# Altium integrated library CDE_Library.IntLib: 6171 symbols (part 23 of 25)
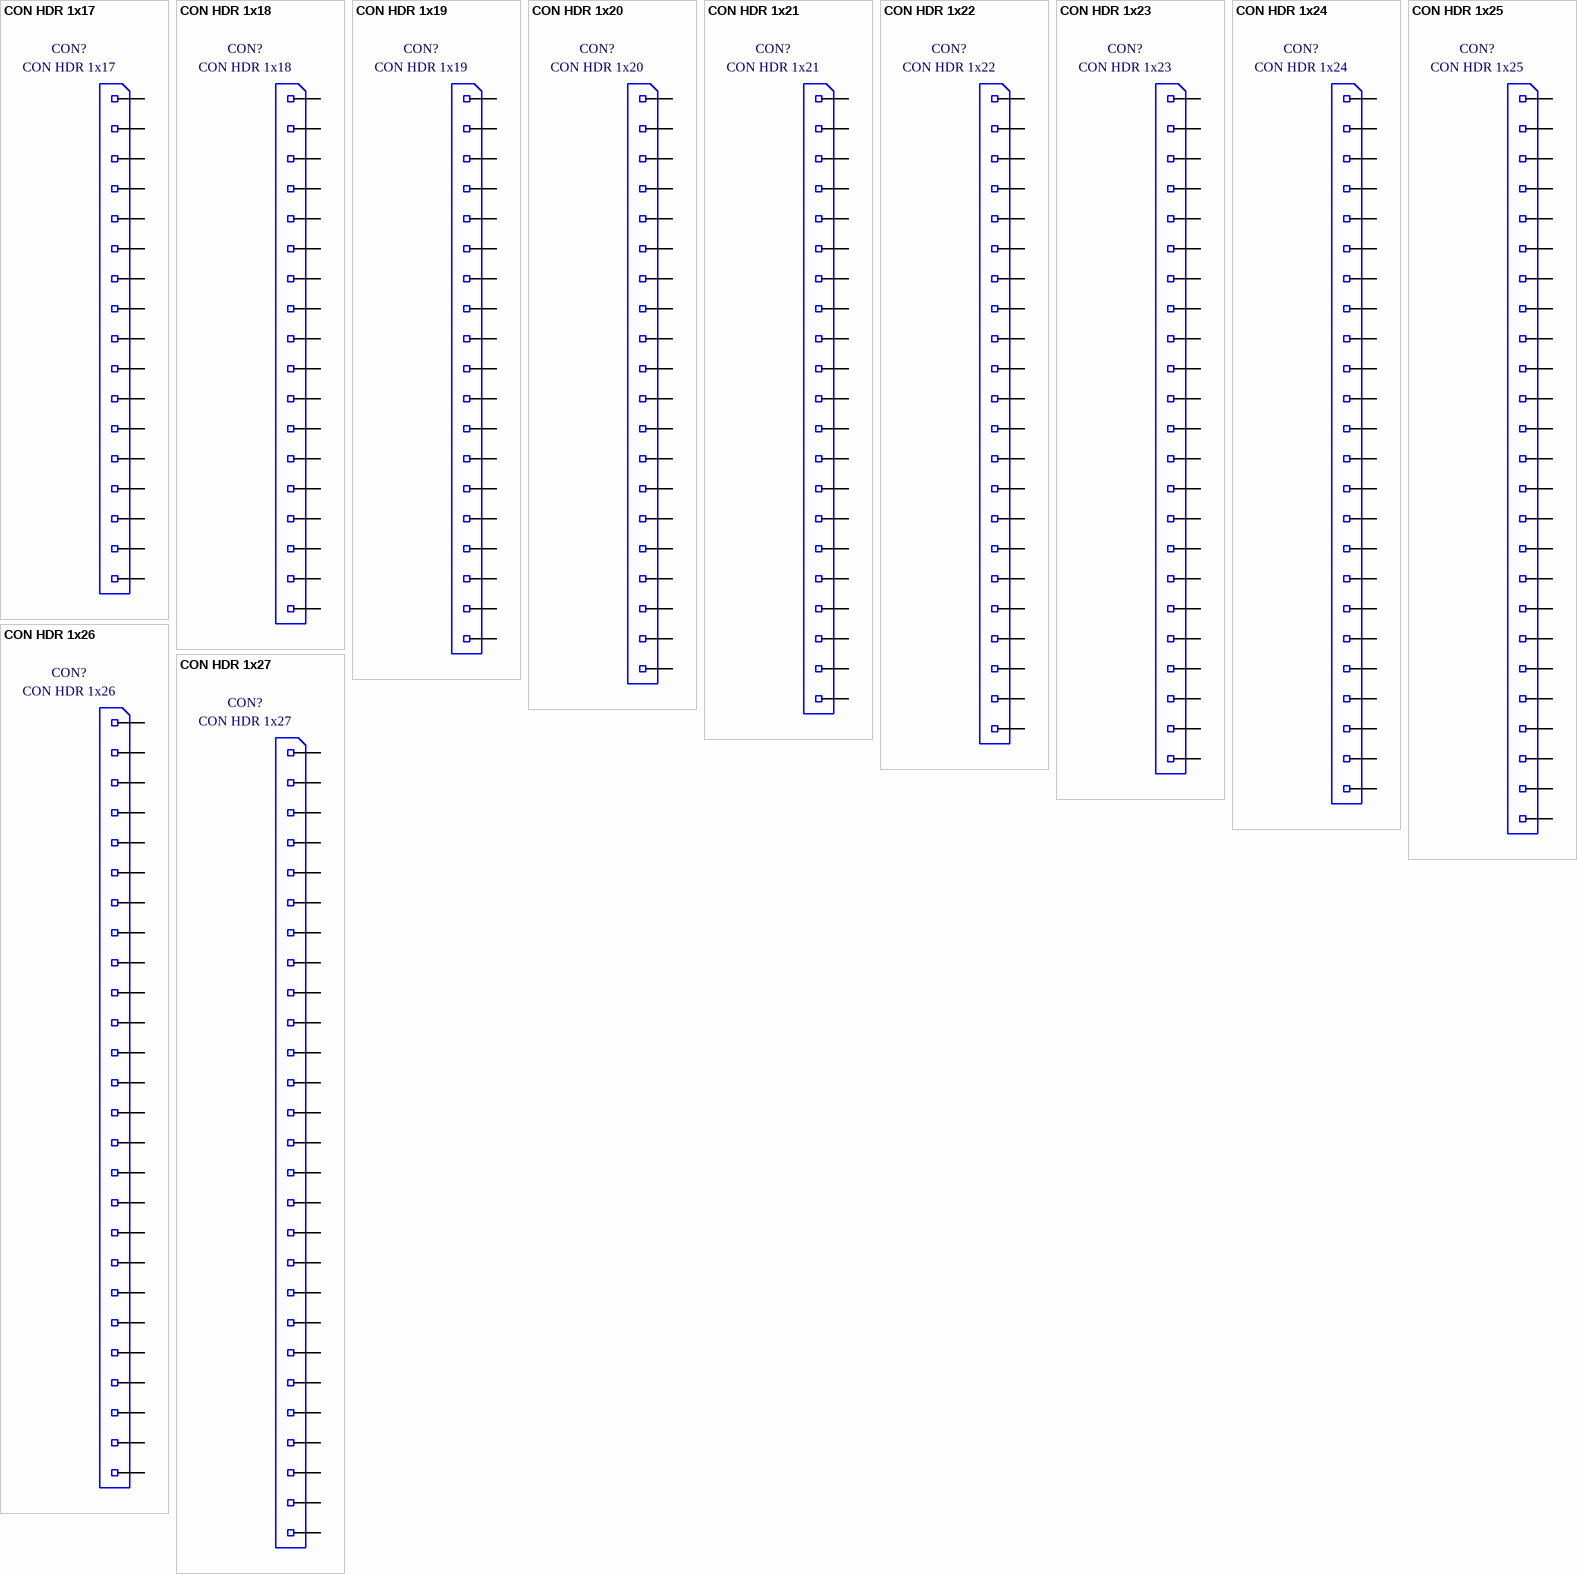
[diagram p279: symbols CON HDR 1x17 to CON HDR 1x27]

## CON HDR 1x23
designator CON?
pcb header recht 1x23  pitch 100mil; Part Number: CON HDR 1x23; Component Kind: Standard; Component Type: Standard; Designator: CON HDR 1x23; Footprint: hdr 1x23; Library Reference: CON HDR 1x23; Pin Count: 23
footprint hdr 1x23
pins: 1, 2, 3, 4, 5, 6, 7, 8, 9, 10, 11, 12, 13, 14, 15, 16, 17, 18, 19, 20, 21, 22, 23

## CON HDR 1x24
designator CON?
pcb header recht 1x24  pitch 100mil; Part Number: CON HDR 1x24; Component Kind: Standard; Component Type: Standard; Designator: CON HDR 1x24; Footprint: hdr 1x24; Library Reference: CON HDR 1x24; Pin Count: 24
footprint hdr 1x24
pins: 1, 2, 3, 4, 5, 6, 7, 8, 9, 10, 11, 12, 13, 14, 15, 16, 17, 18, 19, 20, 21, 22, 23, 24

## CON HDR 1x25
designator CON?
pcb header recht 1x25  pitch 100mil; Part Number: CON HDR 1x25; Component Kind: Standard; Component Type: Standard; Designator: CON HDR 1x25; Footprint: hdr 1x25; Library Reference: CON HDR 1x25; Pin Count: 25
footprint hdr 1x25
pins: 1, 2, 3, 4, 5, 6, 7, 8, 9, 10, 11, 12, 13, 14, 15, 16, 17, 18, 19, 20, 21, 22, 23, 24, 25

## CON HDR 1x26
designator CON?
pcb header recht 1x26  pitch 100mil; Part Number: CON HDR 1x26; Component Kind: Standard; Component Type: Standard; Designator: CON HDR 1x26; Footprint: hdr 1x26; Library Reference: CON HDR 1x26; Pin Count: 26
footprint hdr 1x26
pins: 1, 2, 3, 4, 5, 6, 7, 8, 9, 10, 11, 12, 13, 14, 15, 16, 17, 18, 19, 20, 21, 22, 23, 24, 25, 26

## CON HDR 1x27
designator CON?
pcb header recht 1x27  pitch 100mil; Part Number: CON HDR 1x27; Component Kind: Standard; Component Type: Standard; Designator: CON HDR 1x27; Footprint: hdr 1x27; Library Reference: CON HDR 1x27; Pin Count: 27
footprint hdr 1x27
pins: 1, 2, 3, 4, 5, 6, 7, 8, 9, 10, 11, 12, 13, 14, 15, 16, 17, 18, 19, 20, 21, 22, 23, 24, 25, 26, 27

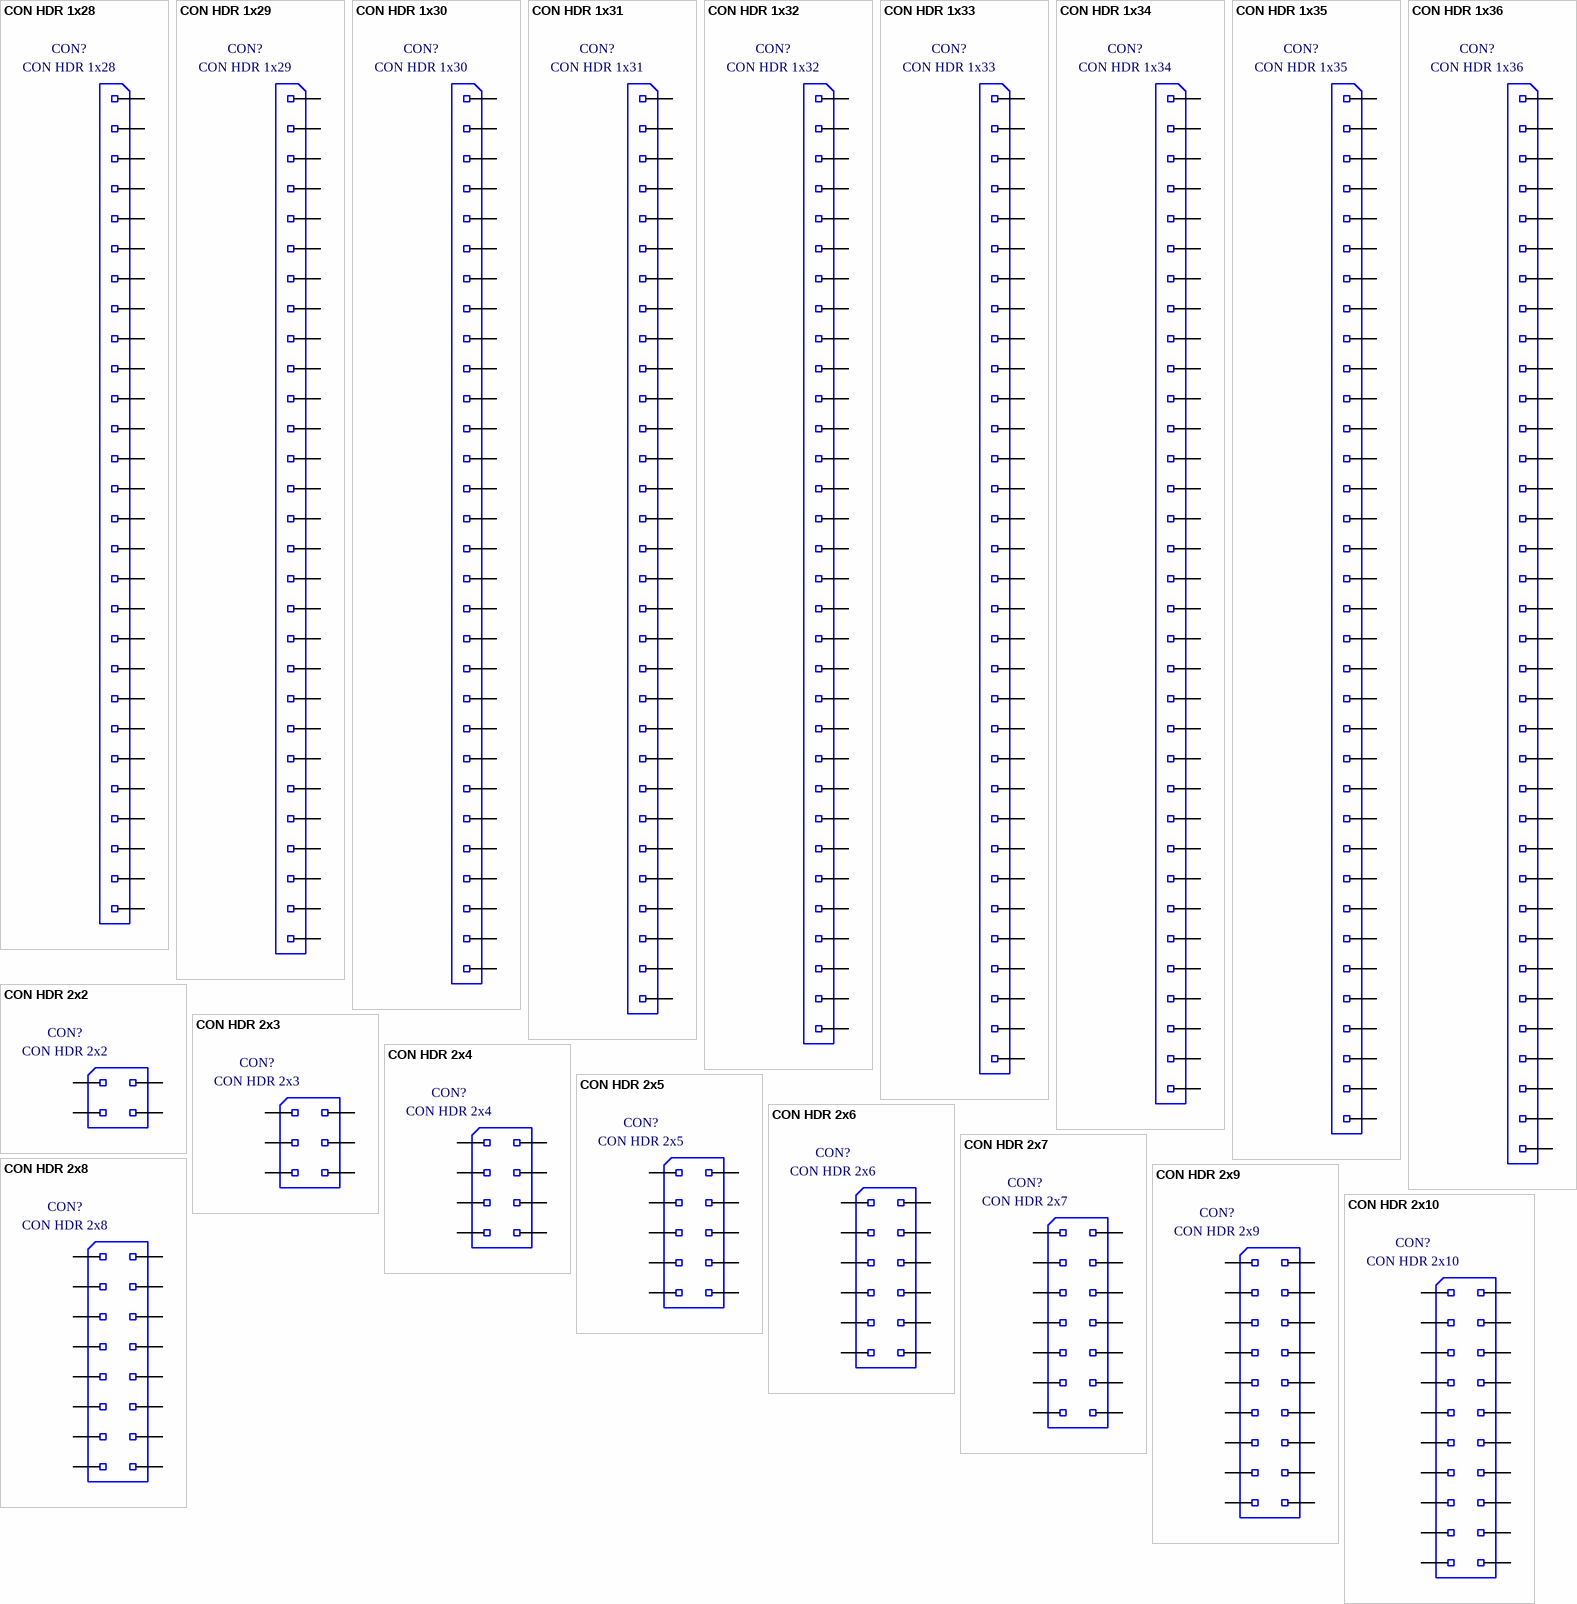
[diagram p240: symbols CON HDR 1x28 to CON HDR 2x10]

## CON HDR 1x28
designator CON?
pcb header recht 1x28  pitch 100mil; Part Number: CON HDR 1x28; Component Kind: Standard; Component Type: Standard; Designator: CON HDR 1x28; Footprint: hdr 1x28; Library Reference: CON HDR 1x28; Pin Count: 28
footprint hdr 1x28
pins: 1, 2, 3, 4, 5, 6, 7, 8, 9, 10, 11, 12, 13, 14, 15, 16, 17, 18, 19, 20, 21, 22, 23, 24, 25, 26, 27, 28

## CON HDR 1x29
designator CON?
pcb header recht 1x29  pitch 100mil; Part Number: CON HDR 1x29; Component Kind: Standard; Component Type: Standard; Designator: CON HDR 1x29; Footprint: hdr 1x29; Library Reference: CON HDR 1x29; Pin Count: 29
footprint hdr 1x29
pins: 1, 2, 3, 4, 5, 6, 7, 8, 9, 10, 11, 12, 13, 14, 15, 16, 17, 18, 19, 20, 21, 22, 23, 24, 25, 26, 27, 28, 29

## CON HDR 1x30
designator CON?
pcb header recht 1x30  pitch 100mil; Part Number: CON HDR 1x30; Component Kind: Standard; Component Type: Standard; Designator: CON HDR 1x30; Footprint: hdr 1x30; Library Reference: CON HDR 1x30; Pin Count: 30
footprint hdr 1x30
pins: 1, 2, 3, 4, 5, 6, 7, 8, 9, 10, 11, 12, 13, 14, 15, 16, 17, 18, 19, 20, 21, 22, 23, 24, 25, 26, 27, 28, 29, 30

## CON HDR 1x31
designator CON?
pcb header recht 1x31  pitch 100mil; Part Number: CON HDR 1x31; Component Kind: Standard; Component Type: Standard; Designator: CON HDR 1x31; Footprint: hdr 1x31; Library Reference: CON HDR 1x31; Pin Count: 31
footprint hdr 1x31
pins: 1, 2, 3, 4, 5, 6, 7, 8, 9, 10, 11, 12, 13, 14, 15, 16, 17, 18, 19, 20, 21, 22, 23, 24, 25, 26, 27, 28, 29, 30, 31

## CON HDR 1x32
designator CON?
pcb header recht 1x32  pitch 100mil; Part Number: CON HDR 1x32; Component Kind: Standard; Component Type: Standard; Designator: CON HDR 1x32; Footprint: hdr 1x32; Library Reference: CON HDR 1x32; Pin Count: 32
footprint hdr 1x32
pins: 1, 2, 3, 4, 5, 6, 7, 8, 9, 10, 11, 12, 13, 14, 15, 16, 17, 18, 19, 20, 21, 22, 23, 24, 25, 26, 27, 28, 29, 30, 31, 32

## CON HDR 1x33
designator CON?
pcb header recht 1x33  pitch 100mil; Part Number: CON HDR 1x33; Component Kind: Standard; Component Type: Standard; Designator: CON HDR 1x33; Footprint: hdr 1x33; Library Reference: CON HDR 1x33; Pin Count: 33
footprint hdr 1x33
pins: 1, 2, 3, 4, 5, 6, 7, 8, 9, 10, 11, 12, 13, 14, 15, 16, 17, 18, 19, 20, 21, 22, 23, 24, 25, 26, 27, 28, 29, 30, 31, 32, 33

## CON HDR 1x34
designator CON?
pcb header recht 1x34  pitch 100mil; Part Number: CON HDR 1x34; Component Kind: Standard; Component Type: Standard; Designator: CON HDR 1x34; Footprint: hdr 1x34; Library Reference: CON HDR 1x34; Pin Count: 34
footprint hdr 1x34
pins: 1, 2, 3, 4, 5, 6, 7, 8, 9, 10, 11, 12, 13, 14, 15, 16, 17, 18, 19, 20, 21, 22, 23, 24, 25, 26, 27, 28, 29, 30, 31, 32, 33, 34

## CON HDR 1x35
designator CON?
pcb header recht 1x35  pitch 100mil; Part Number: CON HDR 1x35; Component Kind: Standard; Component Type: Standard; Designator: CON HDR 1x35; Footprint: hdr 1x35; Library Reference: CON HDR 1x35; Pin Count: 35
footprint hdr 1x35
pins: 1, 2, 3, 4, 5, 6, 7, 8, 9, 10, 11, 12, 13, 14, 15, 16, 17, 18, 19, 20, 21, 22, 23, 24, 25, 26, 27, 28, 29, 30, 31, 32, 33, 34, 35

## CON HDR 1x36
designator CON?
pcb header recht 1x36 pitch 100mil; Part Number: CON HDR 1x36; Component Kind: Standard; Component Type: Standard; Designator: CON HDR 1x36; Footprint: hdr 1x36; Library Reference: CON HDR 1x36; Pin Count: 36
footprint hdr 1x36
pins: 1, 2, 3, 4, 5, 6, 7, 8, 9, 10, 11, 12, 13, 14, 15, 16, 17, 18, 19, 20, 21, 22, 23, 24, 25, 26, 27, 28, 29, 30, 31, 32, 33, 34, 35, 36

## CON HDR 2x2
designator CON?
pcb header recht 2x2  pitch 100mil; Part Number: CON HDR 2x2; Component Kind: Standard; Component Type: Standard; Designator: CON HDR 2x2; Footprint: hdr 2x2; Library Reference: CON HDR 2x2; Pin Count: 4
footprint hdr 2x2
pins: 1, 2, 3, 4

## CON HDR 2x3
designator CON?
pcb header recht 2x3  pitch 100mil; Part Number: CON HDR 2x3; Component Kind: Standard; Component Type: Standard; Designator: CON HDR 2x3; Footprint: hdr 2x3; Library Reference: CON HDR 2x3; Pin Count: 6
footprint hdr 2x3
pins: 1, 2, 3, 4, 5, 6

## CON HDR 2x4
designator CON?
pcb header recht 2x4  pitch 100mil; Part Number: CON HDR 2x4; Component Kind: Standard; Component Type: Standard; Designator: CON HDR 2x4; Footprint: hdr 2x4; Library Reference: CON HDR 2x4; Pin Count: 8
footprint hdr 2x4
pins: 1, 2, 3, 4, 5, 6, 7, 8

## CON HDR 2x5
designator CON?
pcb header recht 2x5  pitch 100mil; Part Number: CON HDR 2x5; Component Kind: Standard; Component Type: Standard; Designator: CON HDR 2x5; Footprint: hdr 2x5; Library Reference: CON HDR 2x5; Pin Count: 10
footprint hdr 2x5
pins: 1, 2, 3, 4, 5, 6, 7, 8, 9, 10

## CON HDR 2x6
designator CON?
pcb header recht 2x6  pitch 100mil; Part Number: CON HDR 2x6; Component Kind: Standard; Component Type: Standard; Designator: CON HDR 2x6; Footprint: hdr 2x6; Library Reference: CON HDR 2x6; Pin Count: 12
footprint hdr 2x6
pins: 1, 2, 3, 4, 5, 6, 7, 8, 9, 10, 11, 12

## CON HDR 2x7
designator CON?
pcb header recht 2x7  pitch 100mil; Part Number: CON HDR 2x7; Component Kind: Standard; Component Type: Standard; Designator: CON HDR 2x7; Footprint: hdr 2x7; Library Reference: CON HDR 2x7; Pin Count: 14
footprint hdr 2x7
pins: 1, 2, 3, 4, 5, 6, 7, 8, 9, 10, 11, 12, 13, 14

## CON HDR 2x8
designator CON?
pcb header recht 2x8  pitch 100mil; Part Number: CON HDR 2x8; Component Kind: Standard; Component Type: Standard; Designator: CON HDR 2x8; Footprint: hdr 2x8; Library Reference: CON HDR 2x8; Pin Count: 16
footprint hdr 2x8
pins: 1, 2, 3, 4, 5, 6, 7, 8, 9, 10, 11, 12, 13, 14, 15, 16

## CON HDR 2x9
designator CON?
pcb header recht 2x9  pitch 100mil; Part Number: CON HDR 2x9; Component Kind: Standard; Component Type: Standard; Designator: CON HDR 2x9; Footprint: hdr 2x9; Library Reference: CON HDR 2x9; Pin Count: 18
footprint hdr 2x9
pins: 1, 2, 3, 4, 5, 6, 7, 8, 9, 10, 11, 12, 13, 14, 15, 16, 17, 18

## CON HDR 2x10
designator CON?
pcb header recht 2x10  pitch 100mil; Part Number: CON HDR 2x10; Component Kind: Standard; Component Type: Standard; Designator: CON HDR 2x10; Footprint: hdr 2x10; Library Reference: CON HDR 2x10; Pin Count: 20
footprint hdr 2x10
pins: 1, 2, 3, 4, 5, 6, 7, 8, 9, 10, 11, 12, 13, 14, 15, 16, 17, 18, 19, 20

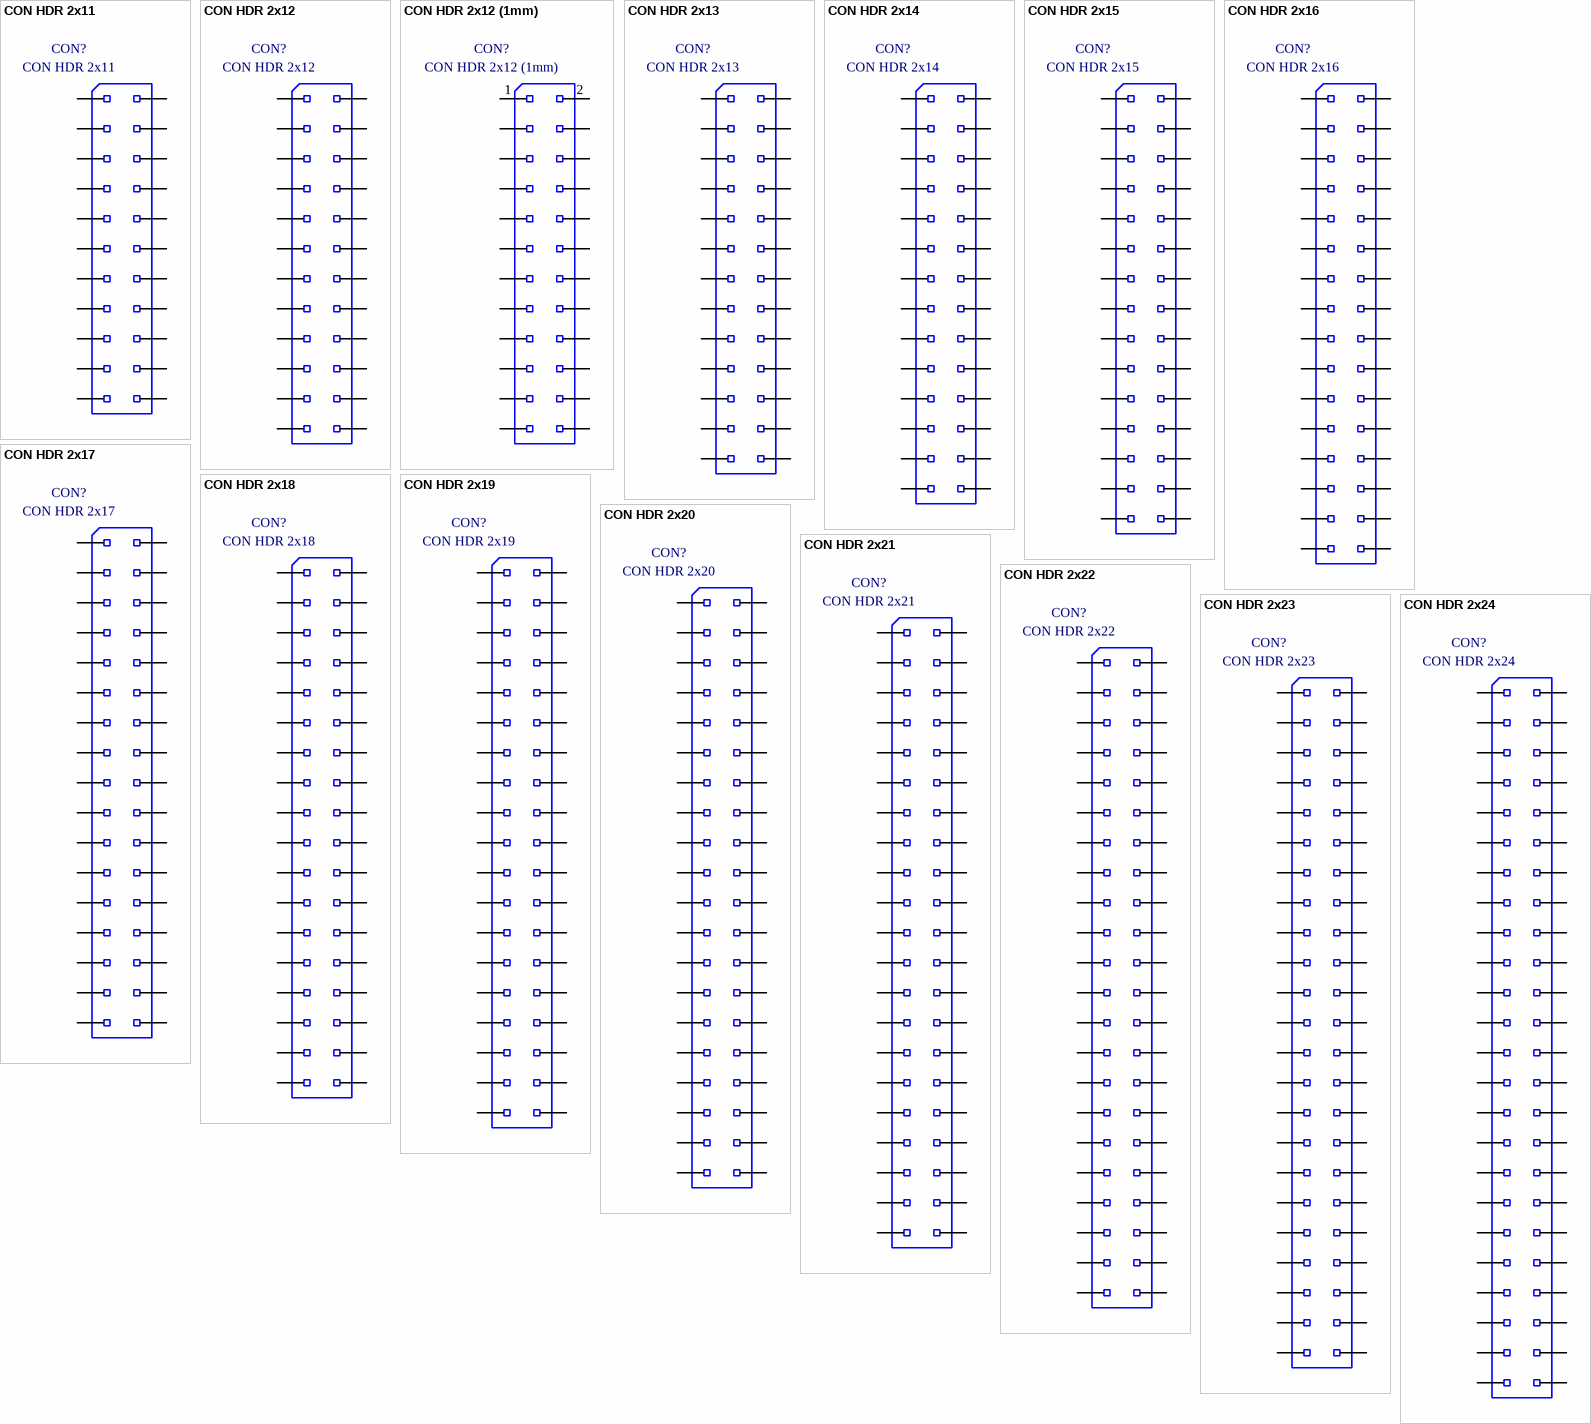
[diagram p241: symbols CON HDR 2x11 to CON HDR 2x24]

## CON HDR 2x11
designator CON?
pcb header recht 2x11  pitch 100mil; Part Number: CON HDR 2x11; Component Kind: Standard; Component Type: Standard; Designator: CON HDR 2x11; Footprint: hdr 2x11; Library Reference: CON HDR 2x11; Pin Count: 22
footprint hdr 2x11
pins: 1, 2, 3, 4, 5, 6, 7, 8, 9, 10, 11, 12, 13, 14, 15, 16, 17, 18, 19, 20, 21, 22

## CON HDR 2x12
designator CON?
pcb header recht 2x12  pitch 100mil; Part Number: CON HDR 2x12; Component Kind: Standard; Component Type: Standard; Designator: CON HDR 2x12; Footprint: hdr 2x12; Library Reference: CON HDR 2x12; Pin Count: 24
footprint hdr 2x12
pins: 1, 2, 3, 4, 5, 6, 7, 8, 9, 10, 11, 12, 13, 14, 15, 16, 17, 18, 19, 20, 21, 22, 23, 24

## CON HDR 2x12 (1mm)
designator CON?
Samtec CLM-112-02 1mm pitch header; Part Number: CON HDR 2x12 (1mm); Component Kind: Standard; Component Type: Standard; Designator: CON HDR 2x12 (1mm); Footprint: smd CON 2x12 (1mm); Library Reference: CON HDR 2x12 (1mm); Pin Count: 24
footprint smd CON 2x12 (1mm)
pins: 1, 2, 3, 4, 5, 6, 7, 8, 9, 10, 11, 12, 13, 14, 15, 16, 17, 18, 19, 20, 21, 22, 23, 24

## CON HDR 2x13
designator CON?
pcb header recht 2x13  pitch 100mil; Part Number: CON HDR 2x13; Component Kind: Standard; Component Type: Standard; Designator: CON HDR 2x13; Footprint: hdr 2x13; Library Reference: CON HDR 2x13; Pin Count: 26
footprint hdr 2x13
pins: 1, 2, 3, 4, 5, 6, 7, 8, 9, 10, 11, 12, 13, 14, 15, 16, 17, 18, 19, 20, 21, 22, 23, 24, 25, 26

## CON HDR 2x14
designator CON?
pcb header recht 2x14  pitch 100mil; Part Number: CON HDR 2x14; Component Kind: Standard; Component Type: Standard; Designator: CON HDR 2x14; Footprint: hdr 2x14; Library Reference: CON HDR 2x14; Pin Count: 28
footprint hdr 2x14
pins: 1, 2, 3, 4, 5, 6, 7, 8, 9, 10, 11, 12, 13, 14, 15, 16, 17, 18, 19, 20, 21, 22, 23, 24, 25, 26, 27, 28

## CON HDR 2x15
designator CON?
pcb header recht 2x15  pitch 100mil; Part Number: CON HDR 2x15; Component Kind: Standard; Component Type: Standard; Designator: CON HDR 2x15; Footprint: hdr 2x15; Library Reference: CON HDR 2x15; Pin Count: 30
footprint hdr 2x15
pins: 1, 2, 3, 4, 5, 6, 7, 8, 9, 10, 11, 12, 13, 14, 15, 16, 17, 18, 19, 20, 21, 22, 23, 24, 25, 26, 27, 28, 29, 30

## CON HDR 2x16
designator CON?
pcb header recht 2x16  pitch 100mil; Part Number: CON HDR 2x16; Component Kind: Standard; Component Type: Standard; Designator: CON HDR 2x16; Footprint: hdr 2x16; Library Reference: CON HDR 2x16; Pin Count: 32
footprint hdr 2x16
pins: 1, 2, 3, 4, 5, 6, 7, 8, 9, 10, 11, 12, 13, 14, 15, 16, 17, 18, 19, 20, 21, 22, 23, 24, 25, 26, 27, 28, 29, 30, 31, 32

## CON HDR 2x17
designator CON?
pcb header recht 2x17  pitch 100mil; Part Number: CON HDR 2x17; Component Kind: Standard; Component Type: Standard; Designator: CON HDR 2x17; Footprint: hdr 2x17; Library Reference: CON HDR 2x17; Pin Count: 34
footprint hdr 2x17
pins: 1, 2, 3, 4, 5, 6, 7, 8, 9, 10, 11, 12, 13, 14, 15, 16, 17, 18, 19, 20, 21, 22, 23, 24, 25, 26, 27, 28, 29, 30, 31, 32, 33, 34

## CON HDR 2x18
designator CON?
pcb header recht 2x18  pitch 100mil; Part Number: CON HDR 2x18; Component Kind: Standard; Component Type: Standard; Designator: CON HDR 2x18; Footprint: hdr 2x18; Library Reference: CON HDR 2x18; Pin Count: 36
footprint hdr 2x18
pins: 1, 2, 3, 4, 5, 6, 7, 8, 9, 10, 11, 12, 13, 14, 15, 16, 17, 18, 19, 20, 21, 22, 23, 24, 25, 26, 27, 28, 29, 30, 31, 32, 33, 34, 35, 36

## CON HDR 2x19
designator CON?
pcb header recht 2x19  pitch 100mil; Part Number: CON HDR 2x19; Component Kind: Standard; Component Type: Standard; Designator: CON HDR 2x19; Footprint: hdr 2x19; Library Reference: CON HDR 2x19; Pin Count: 38
footprint hdr 2x19
pins: 1, 2, 3, 4, 5, 6, 7, 8, 9, 10, 11, 12, 13, 14, 15, 16, 17, 18, 19, 20, 21, 22, 23, 24, 25, 26, 27, 28, 29, 30, 31, 32, 33, 34, 35, 36, 37, 38

## CON HDR 2x20
designator CON?
pcb header recht 2x20  pitch 100mil; Part Number: CON HDR 2x20; Component Kind: Standard; Component Type: Standard; Designator: CON HDR 2x20; Footprint: hdr 2x20; Library Reference: CON HDR 2x20; Pin Count: 40
footprint hdr 2x20
pins: 1, 2, 3, 4, 5, 6, 7, 8, 9, 10, 11, 12, 13, 14, 15, 16, 17, 18, 19, 20, 21, 22, 23, 24, 25, 26, 27, 28, 29, 30, 31, 32, 33, 34, 35, 36, 37, 38, 39, 40

## CON HDR 2x21
designator CON?
pcb header recht 2x21  pitch 100mil; Part Number: CON HDR 2x21; Component Kind: Standard; Component Type: Standard; Designator: CON HDR 2x21; Footprint: hdr 2x21; Library Reference: CON HDR 2x21; Pin Count: 42
footprint hdr 2x21
pins: 1, 2, 3, 4, 5, 6, 7, 8, 9, 10, 11, 12, 13, 14, 15, 16, 17, 18, 19, 20, 21, 22, 23, 24, 25, 26, 27, 28, 29, 30, 31, 32, 33, 34, 35, 36, 37, 38, 39, 40, 41, 42

## CON HDR 2x22
designator CON?
pcb header recht 2x22  pitch 100mil; Part Number: CON HDR 2x22; Component Kind: Standard; Component Type: Standard; Designator: CON HDR 2x22; Footprint: hdr 2x22; Library Reference: CON HDR 2x22; Pin Count: 44
footprint hdr 2x22
pins: 1, 2, 3, 4, 5, 6, 7, 8, 9, 10, 11, 12, 13, 14, 15, 16, 17, 18, 19, 20, 21, 22, 23, 24, 25, 26, 27, 28, 29, 30, 31, 32, 33, 34, 35, 36, 37, 38, 39, 40, 41, 42, 43, 44

## CON HDR 2x23
designator CON?
pcb header recht 2x23  pitch 100mil; Part Number: CON HDR 2x23; Component Kind: Standard; Component Type: Standard; Designator: CON HDR 2x23; Footprint: hdr 2x23; Library Reference: CON HDR 2x23; Pin Count: 46
footprint hdr 2x23
pins: 1, 2, 3, 4, 5, 6, 7, 8, 9, 10, 11, 12, 13, 14, 15, 16, 17, 18, 19, 20, 21, 22, 23, 24, 25, 26, 27, 28, 29, 30, 31, 32, 33, 34, 35, 36, 37, 38, 39, 40, 41, 42, 43, 44, 45, 46

## CON HDR 2x24
designator CON?
pcb header recht 2x24  pitch 100mil; Part Number: CON HDR 2x24; Component Kind: Standard; Component Type: Standard; Designator: CON HDR 2x24; Footprint: hdr 2x24; Library Reference: CON HDR 2x24; Pin Count: 48
footprint hdr 2x24
pins: 1, 2, 3, 4, 5, 6, 7, 8, 9, 10, 11, 12, 13, 14, 15, 16, 17, 18, 19, 20, 21, 22, 23, 24, 25, 26, 27, 28, 29, 30, 31, 32, 33, 34, 35, 36, 37, 38, 39, 40, 41, 42, 43, 44, 45, 46, 47, 48

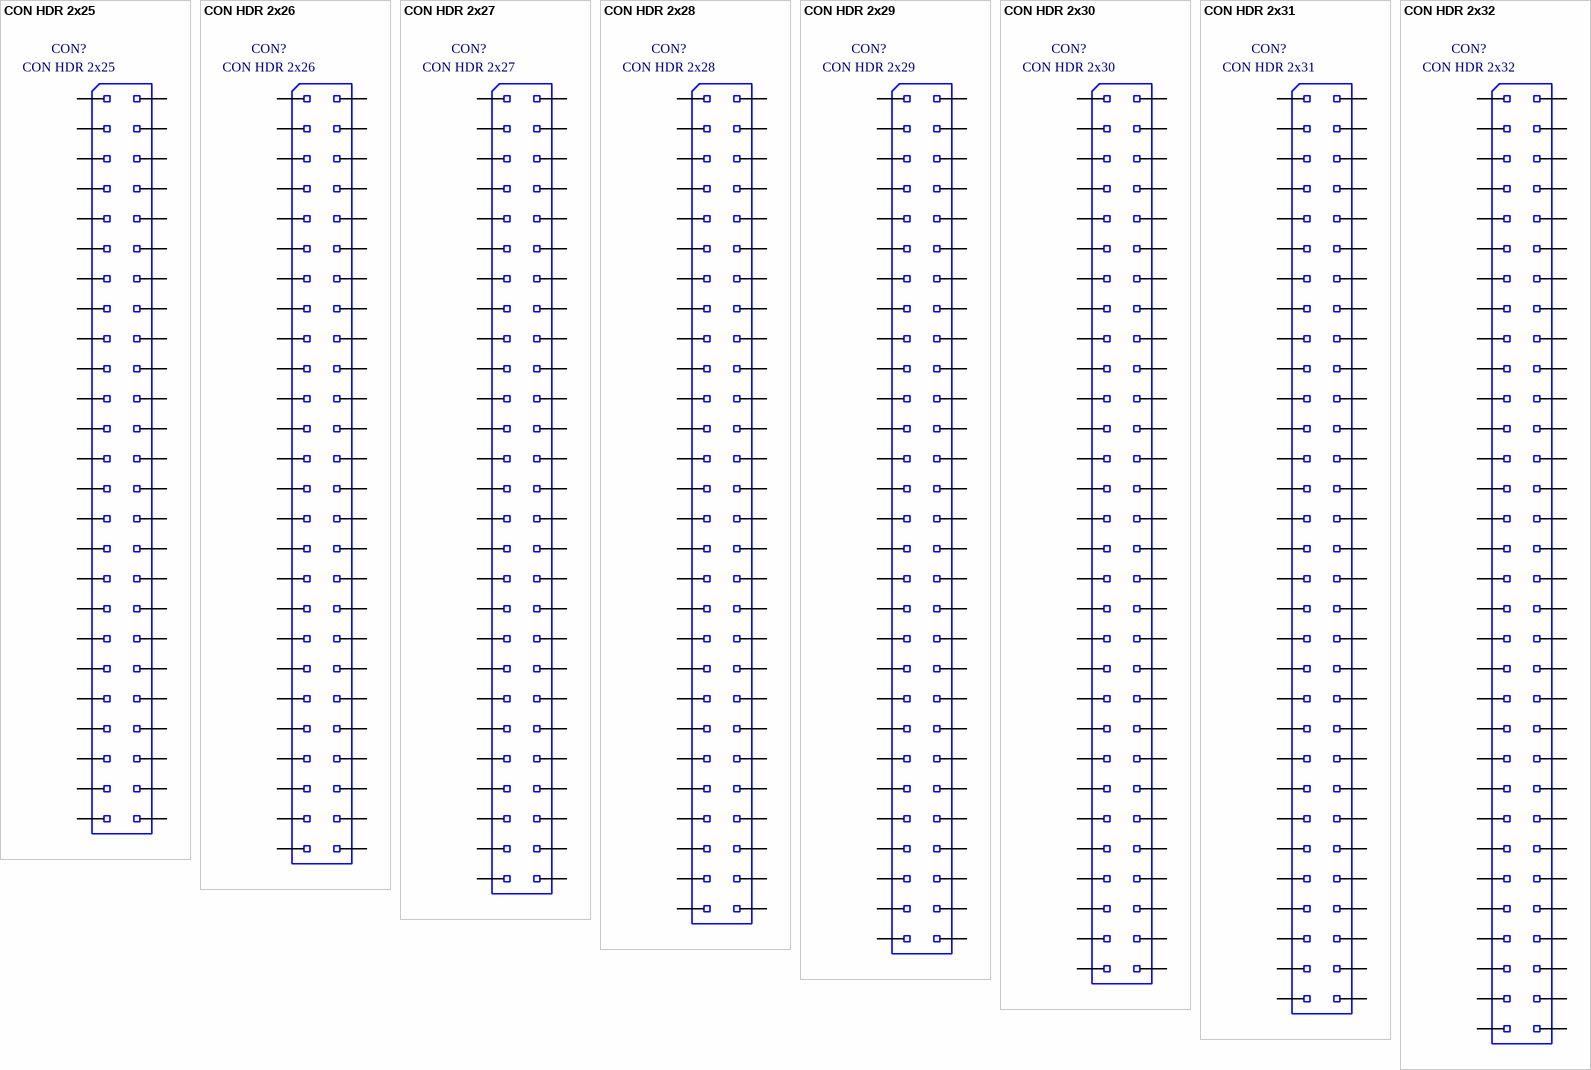
[diagram p242: symbols CON HDR 2x25 to CON HDR 2x32]

## CON HDR 2x25
designator CON?
pcb header recht 2x25  pitch 100mil; Part Number: CON HDR 2x25; Component Kind: Standard; Component Type: Standard; Designator: CON HDR 2x25; Footprint: hdr 2x25; Library Reference: CON HDR 2x25; Pin Count: 50
footprint hdr 2x25
pins: 1, 2, 3, 4, 5, 6, 7, 8, 9, 10, 11, 12, 13, 14, 15, 16, 17, 18, 19, 20, 21, 22, 23, 24, 25, 26, 27, 28, 29, 30, 31, 32, 33, 34, 35, 36, 37, 38, 39, 40, 41, 42, 43, 44, 45, 46, 47, 48, 49, 50

## CON HDR 2x26
designator CON?
pcb header recht 2x26  pitch 100mil; Part Number: CON HDR 2x26; Component Kind: Standard; Component Type: Standard; Designator: CON HDR 2x26; Footprint: hdr 2x26; Library Reference: CON HDR 2x26; Pin Count: 52
footprint hdr 2x26
pins: 1, 2, 3, 4, 5, 6, 7, 8, 9, 10, 11, 12, 13, 14, 15, 16, 17, 18, 19, 20, 21, 22, 23, 24, 25, 26, 27, 28, 29, 30, 31, 32, 33, 34, 35, 36, 37, 38, 39, 40, 41, 42, 43, 44, 45, 46, 47, 48, 49, 50, 51, 52

## CON HDR 2x27
designator CON?
pcb header recht 2x27  pitch 100mil; Part Number: CON HDR 2x27; Component Kind: Standard; Component Type: Standard; Designator: CON HDR 2x27; Footprint: hdr 2x27; Library Reference: CON HDR 2x27; Pin Count: 54
footprint hdr 2x27
pins: 1, 2, 3, 4, 5, 6, 7, 8, 9, 10, 11, 12, 13, 14, 15, 16, 17, 18, 19, 20, 21, 22, 23, 24, 25, 26, 27, 28, 29, 30, 31, 32, 33, 34, 35, 36, 37, 38, 39, 40, 41, 42, 43, 44, 45, 46, 47, 48, 49, 50, 51, 52, 53, 54

## CON HDR 2x28
designator CON?
pcb header recht 2x28  pitch 100mil; Part Number: CON HDR 2x28; Component Kind: Standard; Component Type: Standard; Designator: CON HDR 2x28; Footprint: hdr 2x28; Library Reference: CON HDR 2x28; Pin Count: 56
footprint hdr 2x28
pins: 1, 2, 3, 4, 5, 6, 7, 8, 9, 10, 11, 12, 13, 14, 15, 16, 17, 18, 19, 20, 21, 22, 23, 24, 25, 26, 27, 28, 29, 30, 31, 32, 33, 34, 35, 36, 37, 38, 39, 40, 41, 42, 43, 44, 45, 46, 47, 48, 49, 50, 51, 52, 53, 54, 55, 56

## CON HDR 2x29
designator CON?
pcb header recht 2x29  pitch 100mil; Part Number: CON HDR 2x29; Component Kind: Standard; Component Type: Standard; Designator: CON HDR 2x29; Footprint: hdr 2x29; Library Reference: CON HDR 2x29; Pin Count: 58
footprint hdr 2x29
pins: 1, 2, 3, 4, 5, 6, 7, 8, 9, 10, 11, 12, 13, 14, 15, 16, 17, 18, 19, 20, 21, 22, 23, 24, 25, 26, 27, 28, 29, 30, 31, 32, 33, 34, 35, 36, 37, 38, 39, 40, 41, 42, 43, 44, 45, 46, 47, 48, 49, 50, 51, 52, 53, 54, 55, 56, 57, 58

## CON HDR 2x30
designator CON?
pcb header recht 2x30  pitch 100mil; Part Number: CON HDR 2x30; Component Kind: Standard; Component Type: Standard; Designator: CON HDR 2x30; Footprint: hdr 2x30; Library Reference: CON HDR 2x30; Pin Count: 60
footprint hdr 2x30
pins: 1, 2, 3, 4, 5, 6, 7, 8, 9, 10, 11, 12, 13, 14, 15, 16, 17, 18, 19, 20, 21, 22, 23, 24, 25, 26, 27, 28, 29, 30, 31, 32, 33, 34, 35, 36, 37, 38, 39, 40, 41, 42, 43, 44, 45, 46, 47, 48, 49, 50, 51, 52, 53, 54, 55, 56, 57, 58, 59, 60

## CON HDR 2x31
designator CON?
pcb header recht 2x31  pitch 100mil; Part Number: CON HDR 2x31; Component Kind: Standard; Component Type: Standard; Designator: CON HDR 2x31; Footprint: hdr 2x31; Library Reference: CON HDR 2x31; Pin Count: 62
footprint hdr 2x31
pins: 1, 2, 3, 4, 5, 6, 7, 8, 9, 10, 11, 12, 13, 14, 15, 16, 17, 18, 19, 20, 21, 22, 23, 24, 25, 26, 27, 28, 29, 30, 31, 32, 33, 34, 35, 36, 37, 38, 39, 40, 41, 42, 43, 44, 45, 46, 47, 48, 49, 50, 51, 52, 53, 54, 55, 56, 57, 58, 59, 60, 61, 62

## CON HDR 2x32
designator CON?
pcb header recht 2x32  pitch 100mil; Part Number: CON HDR 2x32; Component Kind: Standard; Component Type: Standard; Designator: CON HDR 2x32; Footprint: hdr 2x32; Library Reference: CON HDR 2x32; Pin Count: 64
footprint hdr 2x32
pins: 1, 2, 3, 4, 5, 6, 7, 8, 9, 10, 11, 12, 13, 14, 15, 16, 17, 18, 19, 20, 21, 22, 23, 24, 25, 26, 27, 28, 29, 30, 31, 32, 33, 34, 35, 36, 37, 38, 39, 40, 41, 42, 43, 44, 45, 46, 47, 48, 49, 50, 51, 52, 53, 54, 55, 56, 57, 58, 59, 60, 61, 62, 63, 64

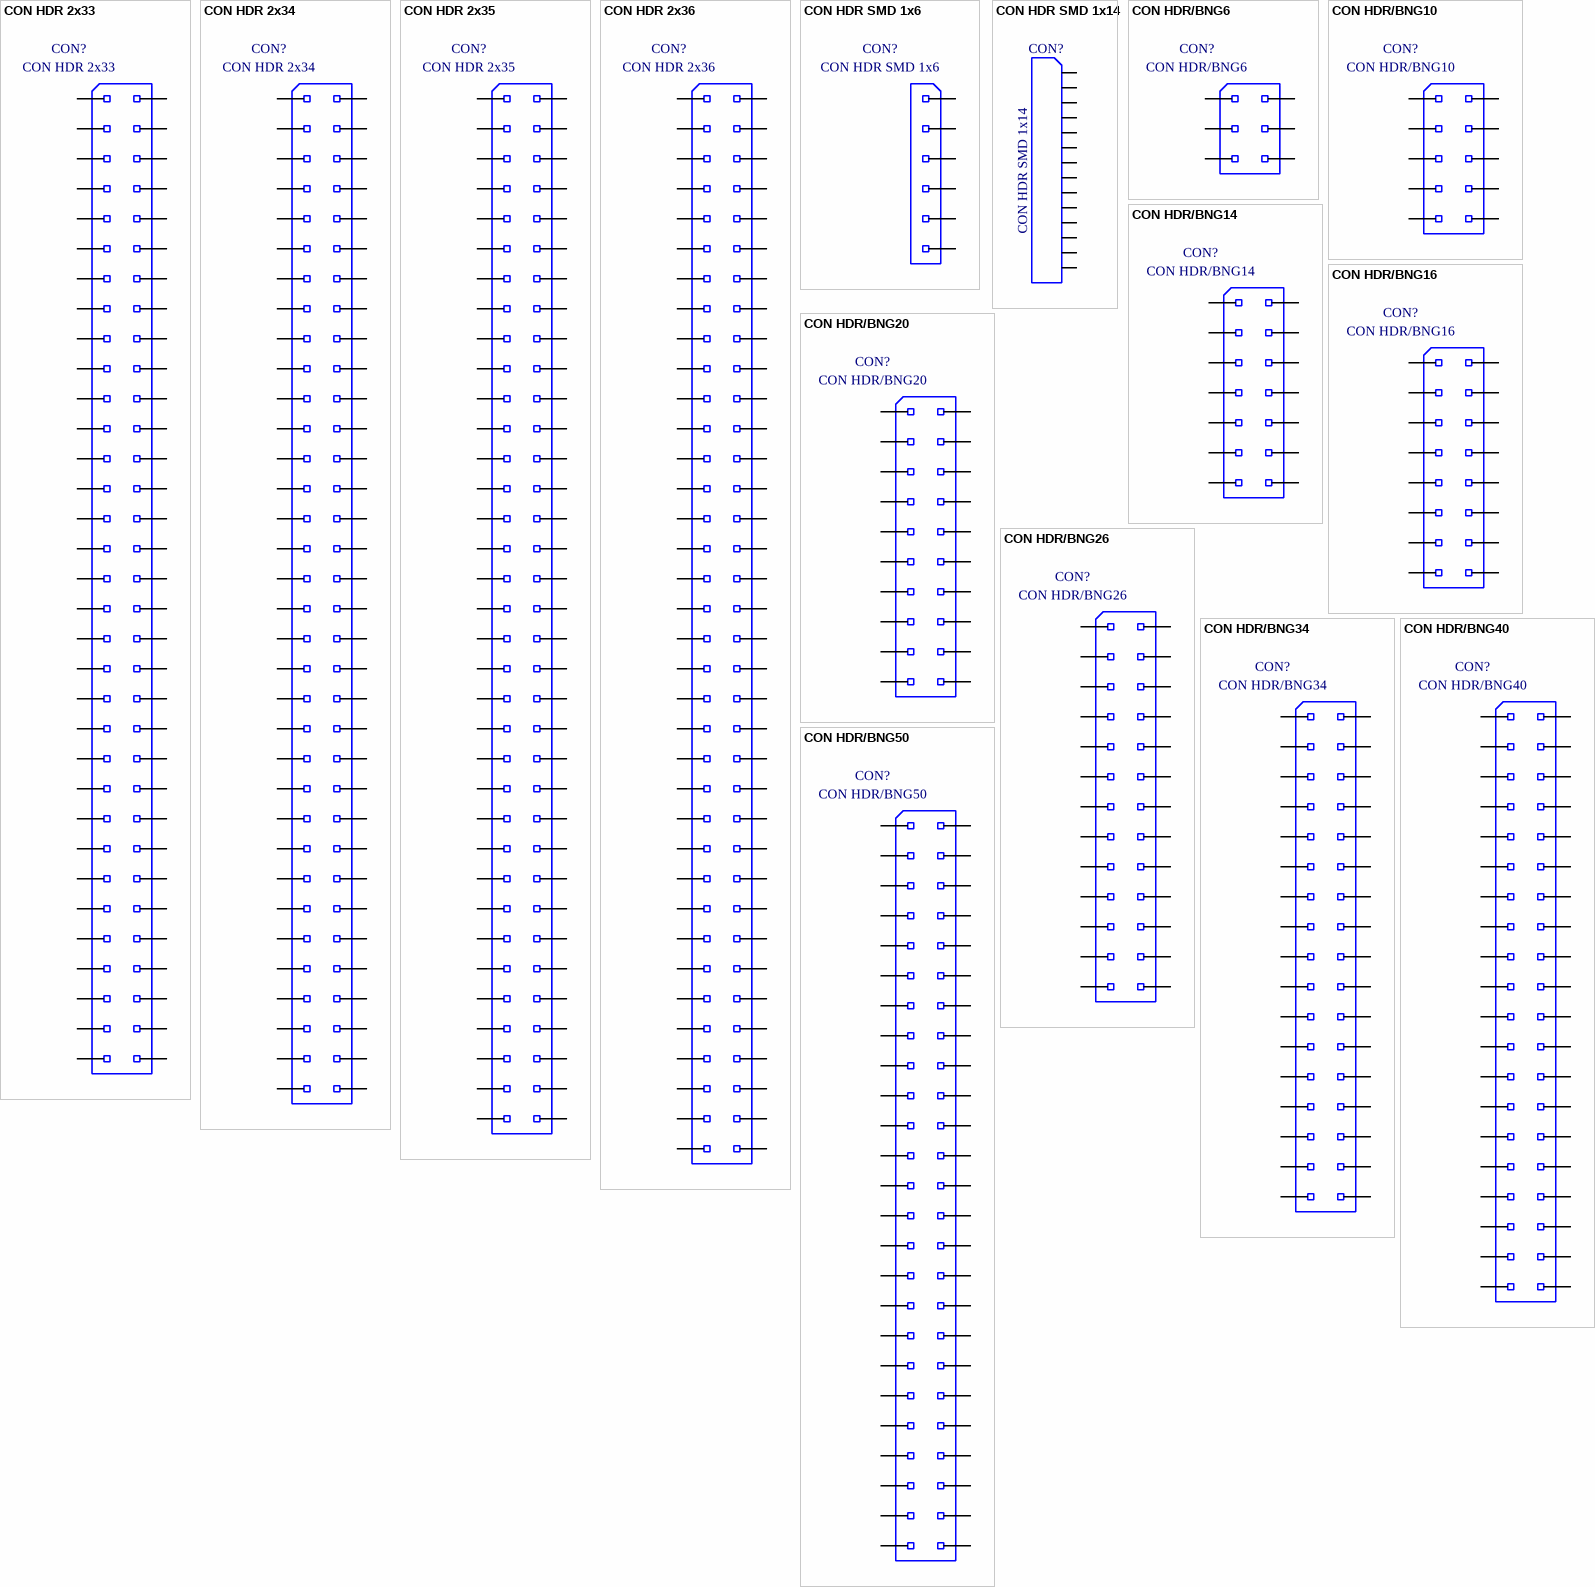
[diagram p243: symbols CON HDR 2x33 to CON HDR/BNG50]

## CON HDR 2x33
designator CON?
pcb header recht 2x33  pitch 100mil; Part Number: CON HDR 2x33; Component Kind: Standard; Component Type: Standard; Designator: CON HDR 2x33; Footprint: hdr 2x33; Library Reference: CON HDR 2x33; Pin Count: 66
footprint hdr 2x33
pins: 1, 2, 3, 4, 5, 6, 7, 8, 9, 10, 11, 12, 13, 14, 15, 16, 17, 18, 19, 20, 21, 22, 23, 24, 25, 26, 27, 28, 29, 30, 31, 32, 33, 34, 35, 36, 37, 38, 39, 40, 41, 42, 43, 44, 45, 46, 47, 48, 49, 50, 51, 52, 53, 54, 55, 56, 57, 58, 59, 60, 61, 62, 63, 64, 65, 66

## CON HDR 2x34
designator CON?
pcb header recht 2x34  pitch 100mil; Part Number: CON HDR 2x34; Component Kind: Standard; Component Type: Standard; Designator: CON HDR 2x34; Footprint: hdr 2x34; Library Reference: CON HDR 2x34; Pin Count: 68
footprint hdr 2x34
pins: 1, 2, 3, 4, 5, 6, 7, 8, 9, 10, 11, 12, 13, 14, 15, 16, 17, 18, 19, 20, 21, 22, 23, 24, 25, 26, 27, 28, 29, 30, 31, 32, 33, 34, 35, 36, 37, 38, 39, 40, 41, 42, 43, 44, 45, 46, 47, 48, 49, 50, 51, 52, 53, 54, 55, 56, 57, 58, 59, 60, 61, 62, 63, 64, 65, 66, 67, 68

## CON HDR 2x35
designator CON?
pcb header recht 2x35  pitch 100mil; Part Number: CON HDR 2x35; Component Kind: Standard; Component Type: Standard; Designator: CON HDR 2x35; Footprint: hdr 2x35; Library Reference: CON HDR 2x35; Pin Count: 70
footprint hdr 2x35
pins: 1, 2, 3, 4, 5, 6, 7, 8, 9, 10, 11, 12, 13, 14, 15, 16, 17, 18, 19, 20, 21, 22, 23, 24, 25, 26, 27, 28, 29, 30, 31, 32, 33, 34, 35, 36, 37, 38, 39, 40, 41, 42, 43, 44, 45, 46, 47, 48, 49, 50, 51, 52, 53, 54, 55, 56, 57, 58, 59, 60, 61, 62, 63, 64, 65, 66, 67, 68, 69, 70

## CON HDR 2x36
designator CON?
pcb header recht 2x36 pitch 100mil; Part Number: CON HDR 2x36; Component Kind: Standard; Component Type: Standard; Designator: CON HDR 2x36; Footprint: hdr 2x36; Library Reference: CON HDR 2x36; Pin Count: 72
footprint hdr 2x36
pins: 1, 2, 3, 4, 5, 6, 7, 8, 9, 10, 11, 12, 13, 14, 15, 16, 17, 18, 19, 20, 21, 22, 23, 24, 25, 26, 27, 28, 29, 30, 31, 32, 33, 34, 35, 36, 37, 38, 39, 40, 41, 42, 43, 44, 45, 46, 47, 48, 49, 50, 51, 52, 53, 54, 55, 56, 57, 58, 59, 60, 61, 62, 63, 64, 65, 66, 67, 68, 69, 70, 71, 72

## CON HDR SMD 1x6
designator CON?
header, 1x6, smd; Part Number: CON HDR SMD 1x6; Component Kind: Standard; Component Type: Standard; Designator: CON HDR SMD 1x6; Footprint: SMD hdr 1x6; Library Reference: CON HDR SMD 1x6; Pin Count: 6
footprint SMD hdr 1x6
pins: 1, 2, 3, 4, 5, 6

## CON HDR SMD 1x14
designator CON?
header, 1x14, smd
footprint SMD hdr 1x14
pins: 1, 2, 3, 4, 5, 6, 7, 8, 9, 10, 11, 12, 13, 14

## CON HDR/BNG6
designator CON?
pcb header, behuizing met nok, 90gr, 6 pennen; Part Number: CON HDR/BNG6; Component Kind: Standard; Component Type: Standard; Designator: CON HDR/BNG6; Footprint: con HDR/BNG6; Library Reference: CON HDR/BNG6; Pin Count: 6
footprint con HDR/BNG6
pins: 1, 2, 3, 4, 5, 6

## CON HDR/BNG10
designator CON?
pcb header, behuizing met nok, 90gr, 10 pennen; Part Number: CON HDR/BNG10; Component Kind: Standard; Component Type: Standard; Designator: CON HDR/BNG10; Footprint: con HDR/BNG10; Library Reference: CON HDR/BNG10; Pin Count: 10
footprint con HDR/BNG10
pins: 1, 2, 3, 4, 5, 6, 7, 8, 9, 10

## CON HDR/BNG14
designator CON?
pcb header, behuizing met nok, 90gr, 14 pennen; Part Number: CON HDR/BNG14; Component Kind: Standard; Component Type: Standard; Designator: CON HDR/BNG14; Footprint: con HDR/BNG14; Library Reference: CON HDR/BNG14; Pin Count: 14
footprint con HDR/BNG14
pins: 1, 2, 3, 4, 5, 6, 7, 8, 9, 10, 11, 12, 13, 14

## CON HDR/BNG16
designator CON?
pcb header, behuizing met nok, 90gr, 16 pennen; Part Number: CON HDR/BNG16; Component Kind: Standard; Component Type: Standard; Designator: CON HDR/BNG16; Footprint: con HDR/BNG16; Library Reference: CON HDR/BNG16; Pin Count: 16
footprint con HDR/BNG16
pins: 1, 2, 3, 4, 5, 6, 7, 8, 9, 10, 11, 12, 13, 14, 15, 16

## CON HDR/BNG20
designator CON?
pcb header, behuizing met nok, 90gr, 20 pennen; Part Number: CON HDR/BNG20; Component Kind: Standard; Component Type: Standard; Designator: CON HDR/BNG20; Footprint: con HDR/BNG20; Library Reference: CON HDR/BNG20; Pin Count: 20
footprint con HDR/BNG20
pins: 1, 2, 3, 4, 5, 6, 7, 8, 9, 10, 11, 12, 13, 14, 15, 16, 17, 18, 19, 20

## CON HDR/BNG26
designator CON?
pcb header, behuizing met nok, 90gr, 26 pennen; Part Number: CON HDR/BNG26; Component Kind: Standard; Component Type: Standard; Designator: CON HDR/BNG26; Footprint: con HDR/BNG26; Library Reference: CON HDR/BNG26; Pin Count: 26
footprint con HDR/BNG26
pins: 1, 2, 3, 4, 5, 6, 7, 8, 9, 10, 11, 12, 13, 14, 15, 16, 17, 18, 19, 20, 21, 22, 23, 24, 25, 26

## CON HDR/BNG34
designator CON?
pcb header, behuizing met nok, 90gr, 34 pennen; Part Number: CON HDR/BNG34; Component Kind: Standard; Component Type: Standard; Designator: CON HDR/BNG34; Footprint: con HDR/BNG34; Library Reference: CON HDR/BNG34; Pin Count: 34
footprint con HDR/BNG34
pins: 1, 2, 3, 4, 5, 6, 7, 8, 9, 10, 11, 12, 13, 14, 15, 16, 17, 18, 19, 20, 21, 22, 23, 24, 25, 26, 27, 28, 29, 30, 31, 32, 33, 34

## CON HDR/BNG40
designator CON?
pcb header, behuizing met nok, 90gr, 40 pennen; Part Number: CON HDR/BNG40; Component Kind: Standard; Component Type: Standard; Designator: CON HDR/BNG40; Footprint: con HDR/BNG40; Library Reference: CON HDR/BNG40; Pin Count: 40
footprint con HDR/BNG40
pins: 1, 2, 3, 4, 5, 6, 7, 8, 9, 10, 11, 12, 13, 14, 15, 16, 17, 18, 19, 20, 21, 22, 23, 24, 25, 26, 27, 28, 29, 30, 31, 32, 33, 34, 35, 36, 37, 38, 39, 40

## CON HDR/BNG50
designator CON?
pcb header, behuizing met nok, 90gr, 50 pennen; Part Number: CON HDR/BNG50; Component Kind: Standard; Component Type: Standard; Designator: CON HDR/BNG50; Footprint: con HDR/BNG50; Library Reference: CON HDR/BNG50; Pin Count: 50
footprint con HDR/BNG50
pins: 1, 2, 3, 4, 5, 6, 7, 8, 9, 10, 11, 12, 13, 14, 15, 16, 17, 18, 19, 20, 21, 22, 23, 24, 25, 26, 27, 28, 29, 30, 31, 32, 33, 34, 35, 36, 37, 38, 39, 40, 41, 42, 43, 44, 45, 46, 47, 48, 49, 50

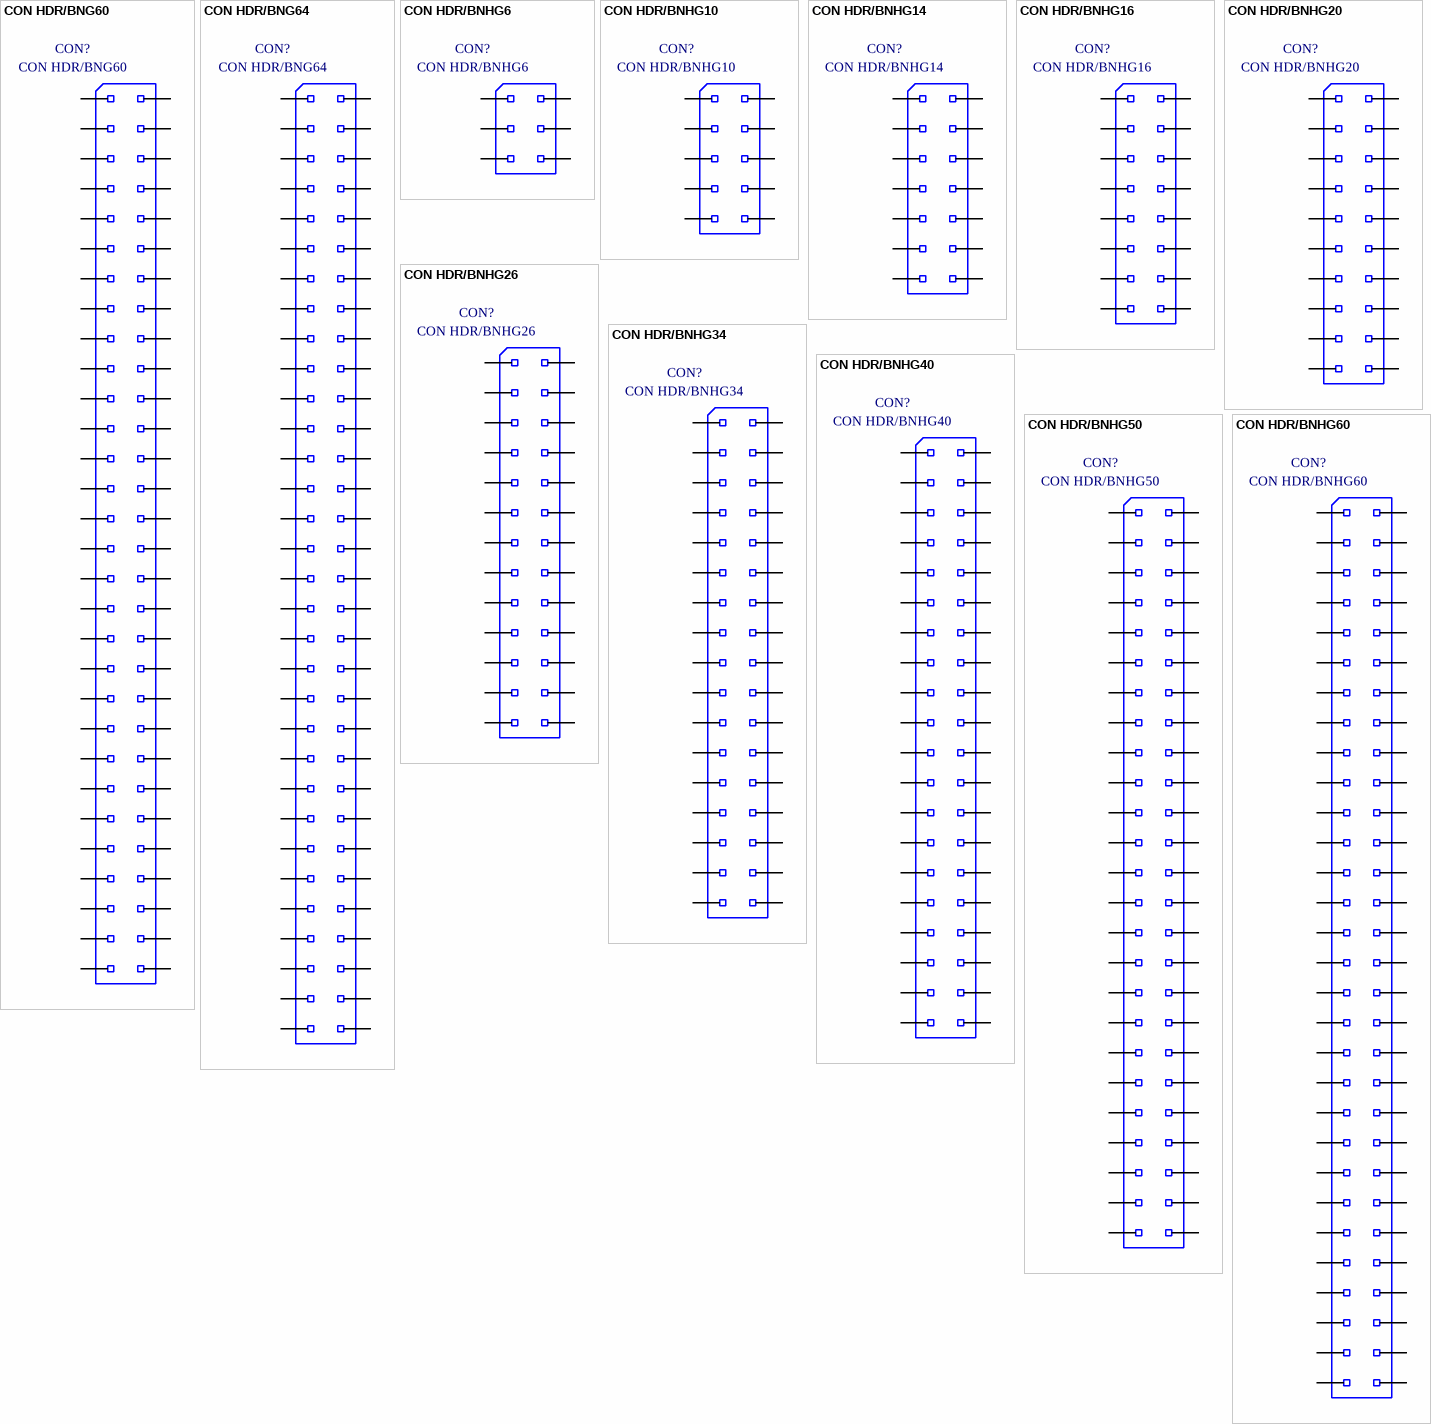
[diagram p244: symbols CON HDR/BNG60 to CON HDR/BNHG60]

## CON HDR/BNG60
designator CON?
pcb header, behuizing met nok, 90gr, 60 pennen; Part Number: CON HDR/BNG60; Component Kind: Standard; Component Type: Standard; Designator: CON HDR/BNG60; Footprint: con HDR/BNG60; Library Reference: CON HDR/BNG60; Pin Count: 60
footprint con HDR/BNG60
pins: 1, 2, 3, 4, 5, 6, 7, 8, 9, 10, 11, 12, 13, 14, 15, 16, 17, 18, 19, 20, 21, 22, 23, 24, 25, 26, 27, 28, 29, 30, 31, 32, 33, 34, 35, 36, 37, 38, 39, 40, 41, 42, 43, 44, 45, 46, 47, 48, 49, 50, 51, 52, 53, 54, 55, 56, 57, 58, 59, 60

## CON HDR/BNG64
designator CON?
pcb header, behuizing met nok, 90gr, 64 pennen; Part Number: CON HDR/BNG64; Component Kind: Standard; Component Type: Standard; Designator: CON HDR/BNG64; Footprint: con HDR/BNG64; Library Reference: CON HDR/BNG64; Pin Count: 64
footprint con HDR/BNG64
pins: 1, 2, 3, 4, 5, 6, 7, 8, 9, 10, 11, 12, 13, 14, 15, 16, 17, 18, 19, 20, 21, 22, 23, 24, 25, 26, 27, 28, 29, 30, 31, 32, 33, 34, 35, 36, 37, 38, 39, 40, 41, 42, 43, 44, 45, 46, 47, 48, 49, 50, 51, 52, 53, 54, 55, 56, 57, 58, 59, 60, 61, 62, 63, 64

## CON HDR/BNHG6
designator CON?
pcb header, behuizing met nok en haakjes, 90gr, 6 pennen; Part Number: CON HDR/BNHG6; Component Kind: Standard; Component Type: Standard; Designator: CON HDR/BNHG6; Footprint: con HDR/BNHG6; Library Reference: CON HDR/BNHG6; Pin Count: 6
footprint con HDR/BNHG6
pins: 1, 2, 3, 4, 5, 6

## CON HDR/BNHG10
designator CON?
pcb header, behuizing met nok en haakjes, 90gr, 10 pennen; Part Number: CON HDR/BNHG10; Component Kind: Standard; Component Type: Standard; Designator: CON HDR/BNHG10; Footprint: con HDR/BNHG10; Library Reference: CON HDR/BNHG10; Pin Count: 10
footprint con HDR/BNHG10
pins: 1, 2, 3, 4, 5, 6, 7, 8, 9, 10

## CON HDR/BNHG14
designator CON?
pcb header, behuizing met nok en haakjes, 90gr, 14 pennen; Part Number: CON HDR/BNHG14; Component Kind: Standard; Component Type: Standard; Designator: CON HDR/BNHG14; Footprint: con HDR/BNHG14; Library Reference: CON HDR/BNHG14; Pin Count: 14
footprint con HDR/BNHG14
pins: 1, 2, 3, 4, 5, 6, 7, 8, 9, 10, 11, 12, 13, 14

## CON HDR/BNHG16
designator CON?
pcb header, behuizing met nok en haakjes, 90gr, 16 pennen; Part Number: CON HDR/BNHG16; Component Kind: Standard; Component Type: Standard; Designator: CON HDR/BNHG16; Footprint: con HDR/BNHG16; Library Reference: CON HDR/BNHG16; Pin Count: 16
footprint con HDR/BNHG16
pins: 1, 2, 3, 4, 5, 6, 7, 8, 9, 10, 11, 12, 13, 14, 15, 16

## CON HDR/BNHG20
designator CON?
pcb header, behuizing met nok en haakjes, 90gr, 20 pennen; Part Number: CON HDR/BNHG20; Component Kind: Standard; Component Type: Standard; Designator: CON HDR/BNHG20; Footprint: con HDR/BNHG20; Library Reference: CON HDR/BNHG20; Pin Count: 20
footprint con HDR/BNHG20
pins: 1, 2, 3, 4, 5, 6, 7, 8, 9, 10, 11, 12, 13, 14, 15, 16, 17, 18, 19, 20

## CON HDR/BNHG26
designator CON?
pcb header, behuizing met nok en haakjes, 90gr, 26 pennen; Part Number: CON HDR/BNHG26; Component Kind: Standard; Component Type: Standard; Designator: CON HDR/BNHG26; Footprint: con HDR/BNHG26; Library Reference: CON HDR/BNHG26; Pin Count: 26
footprint con HDR/BNHG26
pins: 1, 2, 3, 4, 5, 6, 7, 8, 9, 10, 11, 12, 13, 14, 15, 16, 17, 18, 19, 20, 21, 22, 23, 24, 25, 26

## CON HDR/BNHG34
designator CON?
pcb header, behuizing met nok en haakjes, 90gr, 34 pennen; Part Number: CON HDR/BNHG34; Component Kind: Standard; Component Type: Standard; Designator: CON HDR/BNHG34; Footprint: con HDR/BNHG34; Library Reference: CON HDR/BNHG34; Pin Count: 34
footprint con HDR/BNHG34
pins: 1, 2, 3, 4, 5, 6, 7, 8, 9, 10, 11, 12, 13, 14, 15, 16, 17, 18, 19, 20, 21, 22, 23, 24, 25, 26, 27, 28, 29, 30, 31, 32, 33, 34

## CON HDR/BNHG40
designator CON?
pcb header, behuizing met nok en haakjes, 90gr, 40 pennen; Part Number: CON HDR/BNHG40; Component Kind: Standard; Component Type: Standard; Designator: CON HDR/BNHG40; Footprint: con HDR/BNHG40; Library Reference: CON HDR/BNHG40; Pin Count: 40
footprint con HDR/BNHG40
pins: 1, 2, 3, 4, 5, 6, 7, 8, 9, 10, 11, 12, 13, 14, 15, 16, 17, 18, 19, 20, 21, 22, 23, 24, 25, 26, 27, 28, 29, 30, 31, 32, 33, 34, 35, 36, 37, 38, 39, 40

## CON HDR/BNHG50
designator CON?
pcb header, behuizing met nok en haakjes, 90gr, 50 pennen; Part Number: CON HDR/BNHG50; Component Kind: Standard; Component Type: Standard; Designator: CON HDR/BNHG50; Footprint: con HDR/BNHG50; Library Reference: CON HDR/BNHG50; Pin Count: 50
footprint con HDR/BNHG50
pins: 1, 2, 3, 4, 5, 6, 7, 8, 9, 10, 11, 12, 13, 14, 15, 16, 17, 18, 19, 20, 21, 22, 23, 24, 25, 26, 27, 28, 29, 30, 31, 32, 33, 34, 35, 36, 37, 38, 39, 40, 41, 42, 43, 44, 45, 46, 47, 48, 49, 50

## CON HDR/BNHG60
designator CON?
pcb header, behuizing met nok en haakjes, 90gr, 60 pennen; Part Number: CON HDR/BNHG60; Component Kind: Standard; Component Type: Standard; Designator: CON HDR/BNHG60; Footprint: con HDR/BNHG60; Library Reference: CON HDR/BNHG60; Pin Count: 60
footprint con HDR/BNHG60
pins: 1, 2, 3, 4, 5, 6, 7, 8, 9, 10, 11, 12, 13, 14, 15, 16, 17, 18, 19, 20, 21, 22, 23, 24, 25, 26, 27, 28, 29, 30, 31, 32, 33, 34, 35, 36, 37, 38, 39, 40, 41, 42, 43, 44, 45, 46, 47, 48, 49, 50, 51, 52, 53, 54, 55, 56, 57, 58, 59, 60

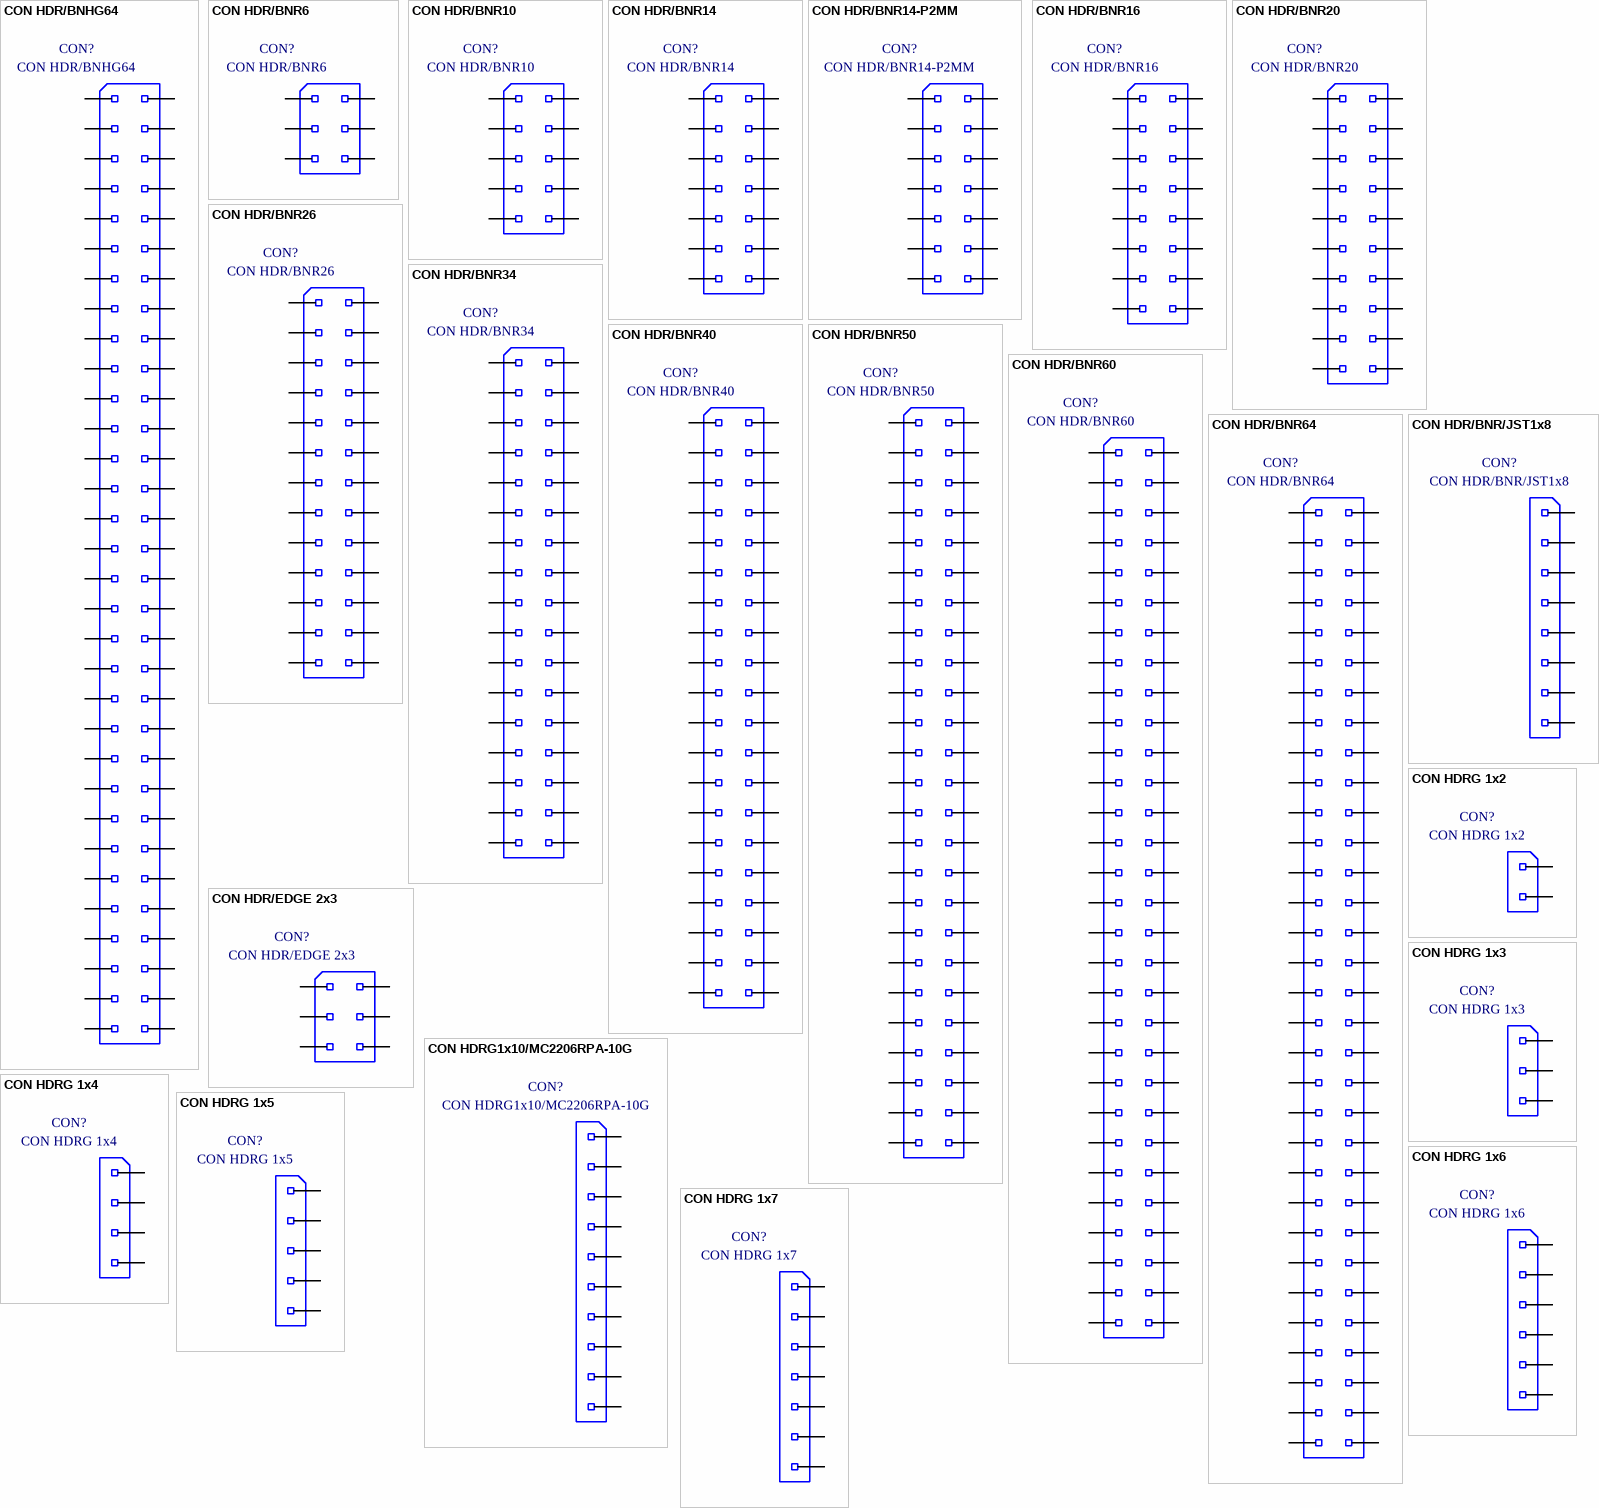
[diagram p245: symbols CON HDR/BNHG64 to CON HDRG 1x7]

## CON HDR/BNHG64
designator CON?
pcb header, behuizing met nok en haakjes, 90gr, 64 pennen; Part Number: CON HDR/BNHG64; Component Kind: Standard; Component Type: Standard; Designator: CON HDR/BNHG64; Footprint: con HDR/BNHG64; Library Reference: CON HDR/BNHG64; Pin Count: 64
footprint con HDR/BNHG64
pins: 1, 2, 3, 4, 5, 6, 7, 8, 9, 10, 11, 12, 13, 14, 15, 16, 17, 18, 19, 20, 21, 22, 23, 24, 25, 26, 27, 28, 29, 30, 31, 32, 33, 34, 35, 36, 37, 38, 39, 40, 41, 42, 43, 44, 45, 46, 47, 48, 49, 50, 51, 52, 53, 54, 55, 56, 57, 58, 59, 60, 61, 62, 63, 64

## CON HDR/BNR6
designator CON?
pcb header, behuizing met nok, 6 rechte pennen; Part Number: CON HDR/BNR6; Component Kind: Standard; Component Type: Standard; Designator: CON HDR/BNR6; Footprint: con HDR/BNR6; Library Reference: CON HDR/BNR6; Pin Count: 6
footprint con HDR/BNR6
pins: 1, 2, 3, 4, 5, 6

## CON HDR/BNR10
designator CON?
pcb header, behuizing met nok, 10 rechte pennen; Part Number: CON HDR/BNR10; Component Kind: Standard; Component Type: Standard; Designator: CON HDR/BNR10; Footprint: con HDR/BNR10; Library Reference: CON HDR/BNR10; Pin Count: 10
footprint con HDR/BNR10
pins: 1, 2, 3, 4, 5, 6, 7, 8, 9, 10

## CON HDR/BNR14
designator CON?
pcb header, behuizing met nok, 14 rechte pennen; Part Number: CON HDR/BNR14; Component Kind: Standard; Component Type: Standard; Designator: CON HDR/BNR14; Footprint: con HDR/BNR14; Library Reference: CON HDR/BNR14; Pin Count: 14
footprint con HDR/BNR14
pins: 1, 2, 3, 4, 5, 6, 7, 8, 9, 10, 11, 12, 13, 14

## CON HDR/BNR14-P2MM
designator CON?
pcb header, behuizing met nok, 14 rechte pennen, pitch 2mm; Part Number: CON HDR/BNR14-P2MM; Component Kind: Standard; Component Type: Standard; Designator: CON HDR/BNR14-P2MM; Footprint: con HDR/BNR14 (pitch 2mm); Library Reference: CON HDR/BNR14-P2MM; Pin Count: 14
footprint con HDR/BNR14 (pitch 2mm)
pins: 1, 2, 3, 4, 5, 6, 7, 8, 9, 10, 11, 12, 13, 14

## CON HDR/BNR16
designator CON?
pcb header, behuizing met nok, 16 rechte pennen; Part Number: CON HDR/BNR16; Component Kind: Standard; Component Type: Standard; Designator: CON HDR/BNR16; Footprint: con HDR/BNR16; Library Reference: CON HDR/BNR16; Pin Count: 16
footprint con HDR/BNR16
pins: 1, 2, 3, 4, 5, 6, 7, 8, 9, 10, 11, 12, 13, 14, 15, 16

## CON HDR/BNR20
designator CON?
pcb header, behuizing met nok, 20 rechte pennen; Part Number: CON HDR/BNR20; Component Kind: Standard; Component Type: Standard; Designator: CON HDR/BNR20; Footprint: con HDR/BNR20; Library Reference: CON HDR/BNR20; Pin Count: 20
footprint con HDR/BNR20
pins: 1, 2, 3, 4, 5, 6, 7, 8, 9, 10, 11, 12, 13, 14, 15, 16, 17, 18, 19, 20

## CON HDR/BNR26
designator CON?
pcb header, behuizing met nok, 26 rechte pennen; Part Number: CON HDR/BNR26; Component Kind: Standard; Component Type: Standard; Designator: CON HDR/BNR26; Footprint: con HDR/BNR26; Library Reference: CON HDR/BNR26; Pin Count: 26
footprint con HDR/BNR26
pins: 1, 2, 3, 4, 5, 6, 7, 8, 9, 10, 11, 12, 13, 14, 15, 16, 17, 18, 19, 20, 21, 22, 23, 24, 25, 26

## CON HDR/BNR34
designator CON?
pcb header, behuizing met nok, 34 rechte pennen; Part Number: CON HDR/BNR34; Component Kind: Standard; Component Type: Standard; Designator: CON HDR/BNR34; Footprint: con HDR/BNR34; Library Reference: CON HDR/BNR34; Pin Count: 34
footprint con HDR/BNR34
pins: 1, 2, 3, 4, 5, 6, 7, 8, 9, 10, 11, 12, 13, 14, 15, 16, 17, 18, 19, 20, 21, 22, 23, 24, 25, 26, 27, 28, 29, 30, 31, 32, 33, 34

## CON HDR/BNR40
designator CON?
pcb header, behuizing met nok, 40 rechte pennen; Part Number: CON HDR/BNR40; Component Kind: Standard; Component Type: Standard; Designator: CON HDR/BNR40; Footprint: con HDR/BNR40; Library Reference: CON HDR/BNR40; Pin Count: 40
footprint con HDR/BNR40
pins: 1, 2, 3, 4, 5, 6, 7, 8, 9, 10, 11, 12, 13, 14, 15, 16, 17, 18, 19, 20, 21, 22, 23, 24, 25, 26, 27, 28, 29, 30, 31, 32, 33, 34, 35, 36, 37, 38, 39, 40

## CON HDR/BNR50
designator CON?
pcb header, behuizing met nok, 50 rechte pennen; Part Number: CON HDR/BNR50; Component Kind: Standard; Component Type: Standard; Designator: CON HDR/BNR50; Footprint: con HDR/BNR50; Library Reference: CON HDR/BNR50; Pin Count: 50
footprint con HDR/BNR50
pins: 1, 2, 3, 4, 5, 6, 7, 8, 9, 10, 11, 12, 13, 14, 15, 16, 17, 18, 19, 20, 21, 22, 23, 24, 25, 26, 27, 28, 29, 30, 31, 32, 33, 34, 35, 36, 37, 38, 39, 40, 41, 42, 43, 44, 45, 46, 47, 48, 49, 50

## CON HDR/BNR60
designator CON?
pcb header, behuizing met nok, 60 rechte pennen; Part Number: CON HDR/BNR60; Component Kind: Standard; Component Type: Standard; Designator: CON HDR/BNR60; Footprint: con HDR/BNR60; Library Reference: CON HDR/BNR60; Pin Count: 60
footprint con HDR/BNR60
pins: 1, 2, 3, 4, 5, 6, 7, 8, 9, 10, 11, 12, 13, 14, 15, 16, 17, 18, 19, 20, 21, 22, 23, 24, 25, 26, 27, 28, 29, 30, 31, 32, 33, 34, 35, 36, 37, 38, 39, 40, 41, 42, 43, 44, 45, 46, 47, 48, 49, 50, 51, 52, 53, 54, 55, 56, 57, 58, 59, 60

## CON HDR/BNR64
designator CON?
pcb header, behuizing met nok, 64 rechte pennen; Part Number: CON HDR/BNR64; Component Kind: Standard; Component Type: Standard; Designator: CON HDR/BNR64; Footprint: con HDR/BNR64; Library Reference: CON HDR/BNR64; Pin Count: 64
footprint con HDR/BNR64
pins: 1, 2, 3, 4, 5, 6, 7, 8, 9, 10, 11, 12, 13, 14, 15, 16, 17, 18, 19, 20, 21, 22, 23, 24, 25, 26, 27, 28, 29, 30, 31, 32, 33, 34, 35, 36, 37, 38, 39, 40, 41, 42, 43, 44, 45, 46, 47, 48, 49, 50, 51, 52, 53, 54, 55, 56, 57, 58, 59, 60, 61, 62, 63, 64

## CON HDR/BNR/JST1x8
designator CON?
Part Number: CON HDR/BNR/JST1x8; Component Kind: Standard; Component Type: Standard; Designator: CON HDR/BNR/JST1x8; Footprint: hdr 1x8 (JST); Library Reference: CON HDR/BNR/JST1x8; Pin Count: 8
footprint hdr 1x8 (JST)
pins: 1, 2, 3, 4, 5, 6, 7, 8

## CON HDR/EDGE 2x3
designator CON?
header 2x3, pcb tussen rijen geschoven, pitch 100 mil; Part Number: CON HDR/EDGE 2x3; Component Kind: Standard; Component Type: Standard; Designator: CON HDR/EDGE 2x3; Footprint: hdr edge 2x3; Library Reference: CON HDR/EDGE 2x3; Pin Count: 6
footprint hdr edge 2x3
pins: 1, 2, 3, 4, 5, 6

## CON HDRG1x10/MC2206RPA-10G
designator CON?
pcb header 90gr 1x10  pitch 50mil, Multicomp 2206RPA-10G; Part Number: CON HDRG1x10/MC2206RPA-10G; Component Kind: Standard; Component Type: Standard; Designator: CON HDRG1x10/MC2206RPA-10G; Footprint: hdr 90gr 1x10 pitch 1.27mm (Multicomp 2206RPA-10G); Library Reference: CON HDRG1x10/MC2206RPA-10G; Pin Count: 10
footprint hdr 90gr 1x10 pitch 1.27mm (Multicomp 2206RPA-10G)
pins: 1, 2, 3, 4, 5, 6, 7, 8, 9, 10

## CON HDRG 1x2
designator CON?
pcb header recht 1x2  pitch 100mil; Part Number: CON HDRG 1x2; Component Kind: Standard; Component Type: Standard; Designator: CON HDRG 1x2; Footprint: hdr 90gr 1x2; Library Reference: CON HDRG 1x2; Pin Count: 2
footprint hdr 90gr 1x2
pins: 1, 2

## CON HDRG 1x3
designator CON?
pcb header recht 1x3  pitch 100mil; Part Number: CON HDRG 1x3; Component Kind: Standard; Component Type: Standard; Designator: CON HDRG 1x3; Footprint: hdr 90gr 1x3; Library Reference: CON HDRG 1x3; Pin Count: 3
footprint hdr 90gr 1x3
pins: 1, 2, 3

## CON HDRG 1x4
designator CON?
pcb header recht 1x4  pitch 100mil; Part Number: CON HDRG 1x4; Component Kind: Standard; Component Type: Standard; Designator: CON HDRG 1x4; Footprint: hdr 90gr 1x4; Library Reference: CON HDRG 1x4; Pin Count: 4
footprint hdr 90gr 1x4
pins: 1, 2, 3, 4

## CON HDRG 1x5
designator CON?
pcb header recht 1x5  pitch 100mil; Part Number: CON HDRG 1x5; Component Kind: Standard; Component Type: Standard; Designator: CON HDRG 1x5; Footprint: hdr 90gr 1x5; Library Reference: CON HDRG 1x5; Pin Count: 5
footprint hdr 90gr 1x5
pins: 1, 2, 3, 4, 5

## CON HDRG 1x6
designator CON?
pcb header recht 1x6  pitch 100mil; Part Number: CON HDRG 1x6; Component Kind: Standard; Component Type: Standard; Designator: CON HDRG 1x6; Footprint: hdr 90gr 1x6; Library Reference: CON HDRG 1x6; Pin Count: 6
footprint hdr 90gr 1x6
pins: 1, 2, 3, 4, 5, 6

## CON HDRG 1x7
designator CON?
pcb header recht 1x7  pitch 100mil; Part Number: CON HDRG 1x7; Component Kind: Standard; Component Type: Standard; Designator: CON HDRG 1x7; Footprint: hdr 90gr 1x7; Library Reference: CON HDRG 1x7; Pin Count: 7
footprint hdr 90gr 1x7
pins: 1, 2, 3, 4, 5, 6, 7

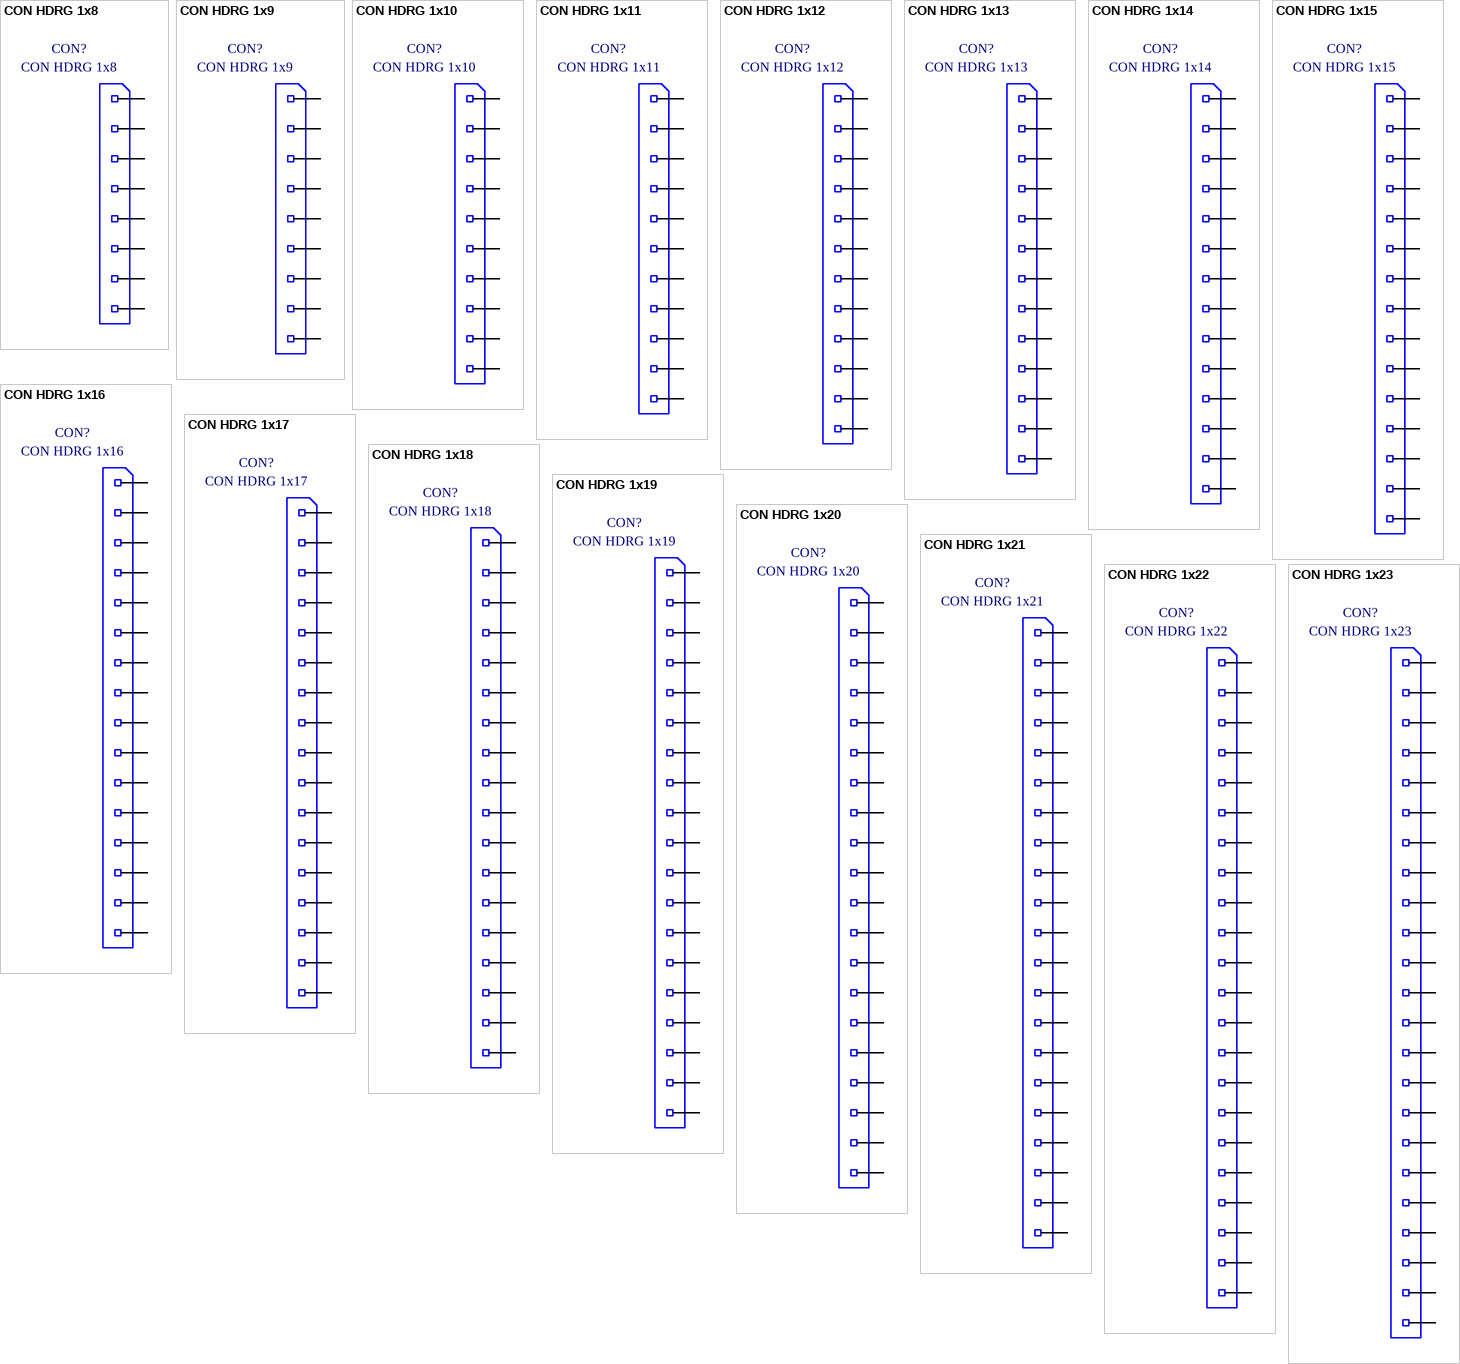
[diagram p246: symbols CON HDRG 1x8 to CON HDRG 1x23]

## CON HDRG 1x8
designator CON?
pcb header recht 1x8  pitch 100mil; Part Number: CON HDRG 1x8; Component Kind: Standard; Component Type: Standard; Designator: CON HDRG 1x8; Footprint: hdr 90gr 1x8; Library Reference: CON HDRG 1x8; Pin Count: 8
footprint hdr 90gr 1x8
pins: 1, 2, 3, 4, 5, 6, 7, 8

## CON HDRG 1x9
designator CON?
pcb header recht 1x9  pitch 100mil; Part Number: CON HDRG 1x9; Component Kind: Standard; Component Type: Standard; Designator: CON HDRG 1x9; Footprint: hdr 90gr 1x9; Library Reference: CON HDRG 1x9; Pin Count: 9
footprint hdr 90gr 1x9
pins: 1, 2, 3, 4, 5, 6, 7, 8, 9

## CON HDRG 1x10
designator CON?
pcb header recht 1x10  pitch 100mil; Part Number: CON HDRG 1x10; Component Kind: Standard; Component Type: Standard; Designator: CON HDRG 1x10; Footprint: hdr 90gr 1x10; Library Reference: CON HDRG 1x10; Pin Count: 10
footprint hdr 90gr 1x10
pins: 1, 2, 3, 4, 5, 6, 7, 8, 9, 10

## CON HDRG 1x11
designator CON?
pcb header recht 1x11  pitch 100mil; Part Number: CON HDRG 1x11; Component Kind: Standard; Component Type: Standard; Designator: CON HDRG 1x11; Footprint: hdr 90gr 1x11; Library Reference: CON HDRG 1x11; Pin Count: 11
footprint hdr 90gr 1x11
pins: 1, 2, 3, 4, 5, 6, 7, 8, 9, 10, 11

## CON HDRG 1x12
designator CON?
pcb header recht 1x12  pitch 100mil; Part Number: CON HDRG 1x12; Component Kind: Standard; Component Type: Standard; Designator: CON HDRG 1x12; Footprint: hdr 90gr 1x12; Library Reference: CON HDRG 1x12; Pin Count: 12
footprint hdr 90gr 1x12
pins: 1, 2, 3, 4, 5, 6, 7, 8, 9, 10, 11, 12

## CON HDRG 1x13
designator CON?
pcb header recht 1x13  pitch 100mil; Part Number: CON HDRG 1x13; Component Kind: Standard; Component Type: Standard; Designator: CON HDRG 1x13; Footprint: hdr 90gr 1x13; Library Reference: CON HDRG 1x13; Pin Count: 13
footprint hdr 90gr 1x13
pins: 1, 2, 3, 4, 5, 6, 7, 8, 9, 10, 11, 12, 13

## CON HDRG 1x14
designator CON?
pcb header recht 1x14  pitch 100mil; Part Number: CON HDRG 1x14; Component Kind: Standard; Component Type: Standard; Designator: CON HDRG 1x14; Footprint: hdr 90gr 1x14; Library Reference: CON HDRG 1x14; Pin Count: 14
footprint hdr 90gr 1x14
pins: 1, 2, 3, 4, 5, 6, 7, 8, 9, 10, 11, 12, 13, 14

## CON HDRG 1x15
designator CON?
pcb header recht 1x15  pitch 100mil; Part Number: CON HDRG 1x15; Component Kind: Standard; Component Type: Standard; Designator: CON HDRG 1x15; Footprint: hdr 90gr 1x15; Library Reference: CON HDRG 1x15; Pin Count: 15
footprint hdr 90gr 1x15
pins: 1, 2, 3, 4, 5, 6, 7, 8, 9, 10, 11, 12, 13, 14, 15

## CON HDRG 1x16
designator CON?
pcb header recht 1x16  pitch 100mil; Part Number: CON HDRG 1x16; Component Kind: Standard; Component Type: Standard; Designator: CON HDRG 1x16; Footprint: hdr 90gr 1x16; Library Reference: CON HDRG 1x16; Pin Count: 16
footprint hdr 90gr 1x16
pins: 1, 2, 3, 4, 5, 6, 7, 8, 9, 10, 11, 12, 13, 14, 15, 16

## CON HDRG 1x17
designator CON?
pcb header recht 1x17  pitch 100mil; Part Number: CON HDRG 1x17; Component Kind: Standard; Component Type: Standard; Designator: CON HDRG 1x17; Footprint: hdr 90gr 1x17; Library Reference: CON HDRG 1x17; Pin Count: 17
footprint hdr 90gr 1x17
pins: 1, 2, 3, 4, 5, 6, 7, 8, 9, 10, 11, 12, 13, 14, 15, 16, 17

## CON HDRG 1x18
designator CON?
pcb header recht 1x18  pitch 100mil; Part Number: CON HDRG 1x18; Component Kind: Standard; Component Type: Standard; Designator: CON HDRG 1x18; Footprint: hdr 90gr 1x18; Library Reference: CON HDRG 1x18; Pin Count: 18
footprint hdr 90gr 1x18
pins: 1, 2, 3, 4, 5, 6, 7, 8, 9, 10, 11, 12, 13, 14, 15, 16, 17, 18

## CON HDRG 1x19
designator CON?
pcb header recht 1x19  pitch 100mil; Part Number: CON HDRG 1x19; Component Kind: Standard; Component Type: Standard; Designator: CON HDRG 1x19; Footprint: hdr 90gr 1x19; Library Reference: CON HDRG 1x19; Pin Count: 19
footprint hdr 90gr 1x19
pins: 1, 2, 3, 4, 5, 6, 7, 8, 9, 10, 11, 12, 13, 14, 15, 16, 17, 18, 19

## CON HDRG 1x20
designator CON?
pcb header recht 1x20  pitch 100mil; Part Number: CON HDRG 1x20; Component Kind: Standard; Component Type: Standard; Designator: CON HDRG 1x20; Footprint: hdr 90gr 1x20; Library Reference: CON HDRG 1x20; Pin Count: 20
footprint hdr 90gr 1x20
pins: 1, 2, 3, 4, 5, 6, 7, 8, 9, 10, 11, 12, 13, 14, 15, 16, 17, 18, 19, 20

## CON HDRG 1x21
designator CON?
pcb header recht 1x21  pitch 100mil; Part Number: CON HDRG 1x21; Component Kind: Standard; Component Type: Standard; Designator: CON HDRG 1x21; Footprint: hdr 90gr 1x21; Library Reference: CON HDRG 1x21; Pin Count: 21
footprint hdr 90gr 1x21
pins: 1, 2, 3, 4, 5, 6, 7, 8, 9, 10, 11, 12, 13, 14, 15, 16, 17, 18, 19, 20, 21

## CON HDRG 1x22
designator CON?
pcb header recht 1x22  pitch 100mil; Part Number: CON HDRG 1x22; Component Kind: Standard; Component Type: Standard; Designator: CON HDRG 1x22; Footprint: hdr 90gr 1x22; Library Reference: CON HDRG 1x22; Pin Count: 22
footprint hdr 90gr 1x22
pins: 1, 2, 3, 4, 5, 6, 7, 8, 9, 10, 11, 12, 13, 14, 15, 16, 17, 18, 19, 20, 21, 22

## CON HDRG 1x23
designator CON?
pcb header recht 1x23  pitch 100mil; Part Number: CON HDRG 1x23; Component Kind: Standard; Component Type: Standard; Designator: CON HDRG 1x23; Footprint: hdr 90gr 1x23; Library Reference: CON HDRG 1x23; Pin Count: 23
footprint hdr 90gr 1x23
pins: 1, 2, 3, 4, 5, 6, 7, 8, 9, 10, 11, 12, 13, 14, 15, 16, 17, 18, 19, 20, 21, 22, 23

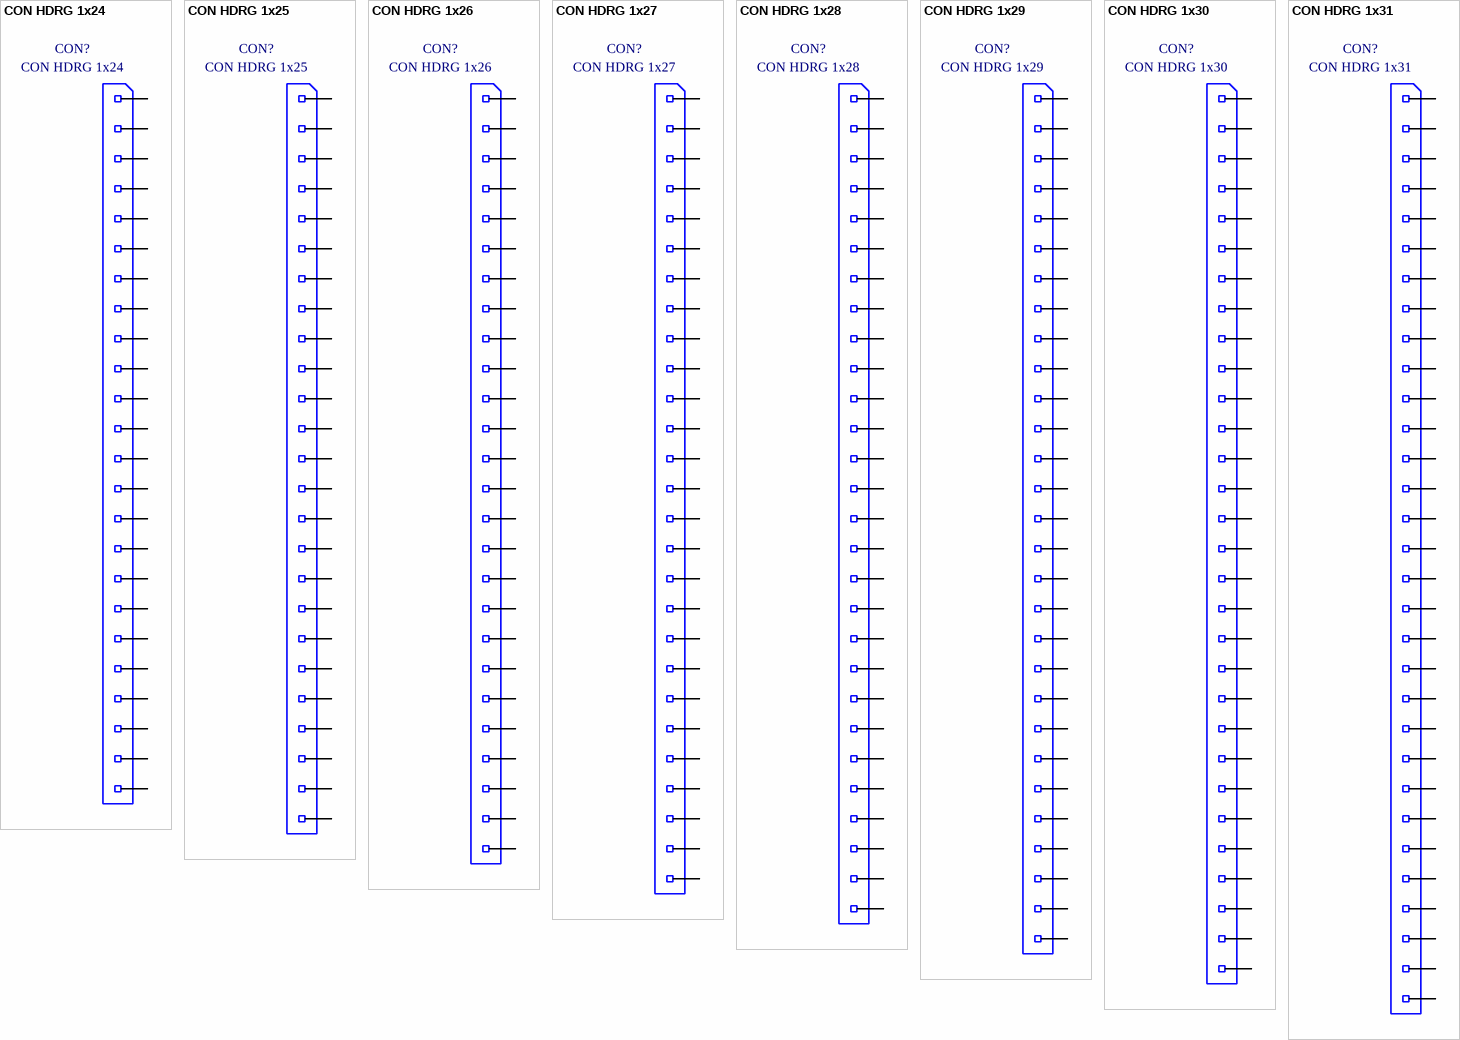
[diagram p247: symbols CON HDRG 1x24 to CON HDRG 1x31]

## CON HDRG 1x24
designator CON?
pcb header recht 1x24  pitch 100mil; Part Number: CON HDRG 1x24; Component Kind: Standard; Component Type: Standard; Designator: CON HDRG 1x24; Footprint: hdr 90gr 1x24; Library Reference: CON HDRG 1x24; Pin Count: 24
footprint hdr 90gr 1x24
pins: 1, 2, 3, 4, 5, 6, 7, 8, 9, 10, 11, 12, 13, 14, 15, 16, 17, 18, 19, 20, 21, 22, 23, 24

## CON HDRG 1x25
designator CON?
pcb header recht 1x25  pitch 100mil; Part Number: CON HDRG 1x25; Component Kind: Standard; Component Type: Standard; Designator: CON HDRG 1x25; Footprint: hdr 90gr 1x25; Library Reference: CON HDRG 1x25; Pin Count: 25
footprint hdr 90gr 1x25
pins: 1, 2, 3, 4, 5, 6, 7, 8, 9, 10, 11, 12, 13, 14, 15, 16, 17, 18, 19, 20, 21, 22, 23, 24, 25

## CON HDRG 1x26
designator CON?
pcb header recht 1x26  pitch 100mil; Part Number: CON HDRG 1x26; Component Kind: Standard; Component Type: Standard; Designator: CON HDRG 1x26; Footprint: hdr 90gr 1x26; Library Reference: CON HDRG 1x26; Pin Count: 26
footprint hdr 90gr 1x26
pins: 1, 2, 3, 4, 5, 6, 7, 8, 9, 10, 11, 12, 13, 14, 15, 16, 17, 18, 19, 20, 21, 22, 23, 24, 25, 26

## CON HDRG 1x27
designator CON?
pcb header recht 1x27  pitch 100mil; Part Number: CON HDRG 1x27; Component Kind: Standard; Component Type: Standard; Designator: CON HDRG 1x27; Footprint: hdr 90gr 1x27; Library Reference: CON HDRG 1x27; Pin Count: 27
footprint hdr 90gr 1x27
pins: 1, 2, 3, 4, 5, 6, 7, 8, 9, 10, 11, 12, 13, 14, 15, 16, 17, 18, 19, 20, 21, 22, 23, 24, 25, 26, 27

## CON HDRG 1x28
designator CON?
pcb header recht 1x28  pitch 100mil; Part Number: CON HDRG 1x28; Component Kind: Standard; Component Type: Standard; Designator: CON HDRG 1x28; Footprint: hdr 90gr 1x28; Library Reference: CON HDRG 1x28; Pin Count: 28
footprint hdr 90gr 1x28
pins: 1, 2, 3, 4, 5, 6, 7, 8, 9, 10, 11, 12, 13, 14, 15, 16, 17, 18, 19, 20, 21, 22, 23, 24, 25, 26, 27, 28

## CON HDRG 1x29
designator CON?
pcb header recht 1x29  pitch 100mil; Part Number: CON HDRG 1x29; Component Kind: Standard; Component Type: Standard; Designator: CON HDRG 1x29; Footprint: hdr 90gr 1x29; Library Reference: CON HDRG 1x29; Pin Count: 29
footprint hdr 90gr 1x29
pins: 1, 2, 3, 4, 5, 6, 7, 8, 9, 10, 11, 12, 13, 14, 15, 16, 17, 18, 19, 20, 21, 22, 23, 24, 25, 26, 27, 28, 29

## CON HDRG 1x30
designator CON?
pcb header recht 1x30  pitch 100mil; Part Number: CON HDRG 1x30; Component Kind: Standard; Component Type: Standard; Designator: CON HDRG 1x30; Footprint: hdr 90gr 1x30; Library Reference: CON HDRG 1x30; Pin Count: 30
footprint hdr 90gr 1x30
pins: 1, 2, 3, 4, 5, 6, 7, 8, 9, 10, 11, 12, 13, 14, 15, 16, 17, 18, 19, 20, 21, 22, 23, 24, 25, 26, 27, 28, 29, 30

## CON HDRG 1x31
designator CON?
pcb header recht 1x31  pitch 100mil; Part Number: CON HDRG 1x31; Component Kind: Standard; Component Type: Standard; Designator: CON HDRG 1x31; Footprint: hdr 90gr 1x31; Library Reference: CON HDRG 1x31; Pin Count: 31
footprint hdr 90gr 1x31
pins: 1, 2, 3, 4, 5, 6, 7, 8, 9, 10, 11, 12, 13, 14, 15, 16, 17, 18, 19, 20, 21, 22, 23, 24, 25, 26, 27, 28, 29, 30, 31

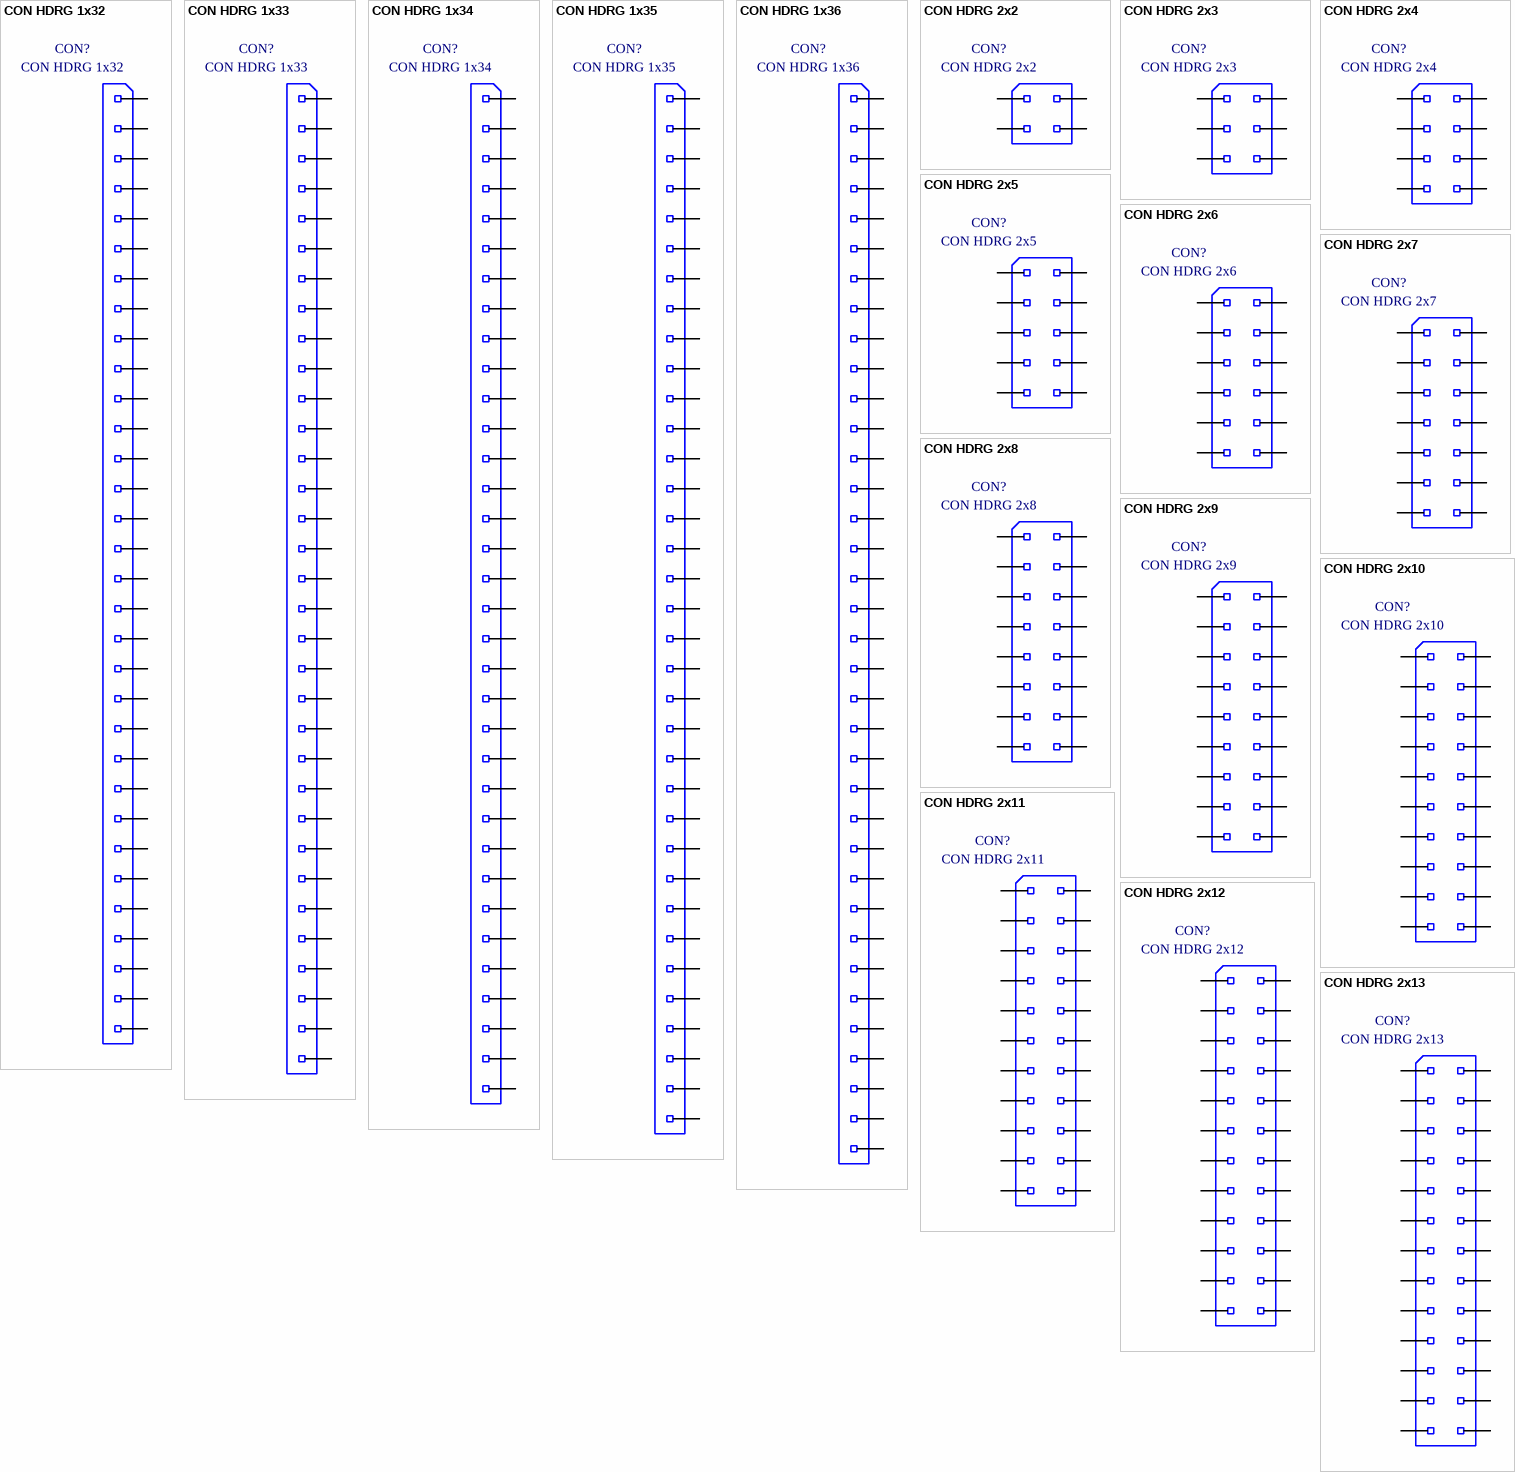
[diagram p248: symbols CON HDRG 1x32 to CON HDRG 2x13]

## CON HDRG 1x32
designator CON?
pcb header recht 1x32  pitch 100mil; Part Number: CON HDRG 1x32; Component Kind: Standard; Component Type: Standard; Designator: CON HDRG 1x32; Footprint: hdr 90gr 1x32; Library Reference: CON HDRG 1x32; Pin Count: 32
footprint hdr 90gr 1x32
pins: 1, 2, 3, 4, 5, 6, 7, 8, 9, 10, 11, 12, 13, 14, 15, 16, 17, 18, 19, 20, 21, 22, 23, 24, 25, 26, 27, 28, 29, 30, 31, 32

## CON HDRG 1x33
designator CON?
pcb header recht 1x33  pitch 100mil; Part Number: CON HDRG 1x33; Component Kind: Standard; Component Type: Standard; Designator: CON HDRG 1x33; Footprint: hdr 90gr 1x33; Library Reference: CON HDRG 1x33; Pin Count: 33
footprint hdr 90gr 1x33
pins: 1, 2, 3, 4, 5, 6, 7, 8, 9, 10, 11, 12, 13, 14, 15, 16, 17, 18, 19, 20, 21, 22, 23, 24, 25, 26, 27, 28, 29, 30, 31, 32, 33

## CON HDRG 1x34
designator CON?
pcb header recht 1x34  pitch 100mil; Part Number: CON HDRG 1x34; Component Kind: Standard; Component Type: Standard; Designator: CON HDRG 1x34; Footprint: hdr 90gr 1x34; Library Reference: CON HDRG 1x34; Pin Count: 34
footprint hdr 90gr 1x34
pins: 1, 2, 3, 4, 5, 6, 7, 8, 9, 10, 11, 12, 13, 14, 15, 16, 17, 18, 19, 20, 21, 22, 23, 24, 25, 26, 27, 28, 29, 30, 31, 32, 33, 34

## CON HDRG 1x35
designator CON?
pcb header recht 1x35  pitch 100mil; Part Number: CON HDRG 1x35; Component Kind: Standard; Component Type: Standard; Designator: CON HDRG 1x35; Footprint: hdr 90gr 1x35; Library Reference: CON HDRG 1x35; Pin Count: 35
footprint hdr 90gr 1x35
pins: 1, 2, 3, 4, 5, 6, 7, 8, 9, 10, 11, 12, 13, 14, 15, 16, 17, 18, 19, 20, 21, 22, 23, 24, 25, 26, 27, 28, 29, 30, 31, 32, 33, 34, 35

## CON HDRG 1x36
designator CON?
pcb header recht 1x36 pitch 100mil; Part Number: CON HDRG 1x36; Component Kind: Standard; Component Type: Standard; Designator: CON HDRG 1x36; Footprint: hdr 90gr 1x36; Library Reference: CON HDRG 1x36; Pin Count: 36
footprint hdr 90gr 1x36
pins: 1, 2, 3, 4, 5, 6, 7, 8, 9, 10, 11, 12, 13, 14, 15, 16, 17, 18, 19, 20, 21, 22, 23, 24, 25, 26, 27, 28, 29, 30, 31, 32, 33, 34, 35, 36

## CON HDRG 2x2
designator CON?
pcb header recht 2x2  pitch 100mil; Part Number: CON HDRG 2x2; Component Kind: Standard; Component Type: Standard; Designator: CON HDRG 2x2; Footprint: hdr 90gr 2x2; Library Reference: CON HDRG 2x2; Pin Count: 4
footprint hdr 90gr 2x2
pins: 1, 2, 3, 4

## CON HDRG 2x3
designator CON?
pcb header recht 2x3  pitch 100mil; Part Number: CON HDRG 2x3; Component Kind: Standard; Component Type: Standard; Designator: CON HDRG 2x3; Footprint: hdr 90gr 2x3; Library Reference: CON HDRG 2x3; Pin Count: 6
footprint hdr 90gr 2x3
pins: 1, 2, 3, 4, 5, 6

## CON HDRG 2x4
designator CON?
pcb header recht 2x4  pitch 100mil; Part Number: CON HDRG 2x4; Component Kind: Standard; Component Type: Standard; Designator: CON HDRG 2x4; Footprint: hdr 90gr 2x4; Library Reference: CON HDRG 2x4; Pin Count: 8
footprint hdr 90gr 2x4
pins: 1, 2, 3, 4, 5, 6, 7, 8

## CON HDRG 2x5
designator CON?
pcb header recht 2x5  pitch 100mil; Part Number: CON HDRG 2x5; Component Kind: Standard; Component Type: Standard; Designator: CON HDRG 2x5; Footprint: hdr 90gr 2x5; Library Reference: CON HDRG 2x5; Pin Count: 10
footprint hdr 90gr 2x5
pins: 1, 2, 3, 4, 5, 6, 7, 8, 9, 10

## CON HDRG 2x6
designator CON?
pcb header recht 2x6  pitch 100mil; Part Number: CON HDRG 2x6; Component Kind: Standard; Component Type: Standard; Designator: CON HDRG 2x6; Footprint: hdr 90gr 2x6; Library Reference: CON HDRG 2x6; Pin Count: 12
footprint hdr 90gr 2x6
pins: 1, 2, 3, 4, 5, 6, 7, 8, 9, 10, 11, 12

## CON HDRG 2x7
designator CON?
pcb header recht 2x7  pitch 100mil; Part Number: CON HDRG 2x7; Component Kind: Standard; Component Type: Standard; Designator: CON HDRG 2x7; Footprint: hdr 90gr 2x7; Library Reference: CON HDRG 2x7; Pin Count: 14
footprint hdr 90gr 2x7
pins: 1, 2, 3, 4, 5, 6, 7, 8, 9, 10, 11, 12, 13, 14